# Altium schematic symbol library SCH.SchLib: 386 symbols (part 1 of 3)
Pins are listed as number, name and electrical type; pins without a type are passive.

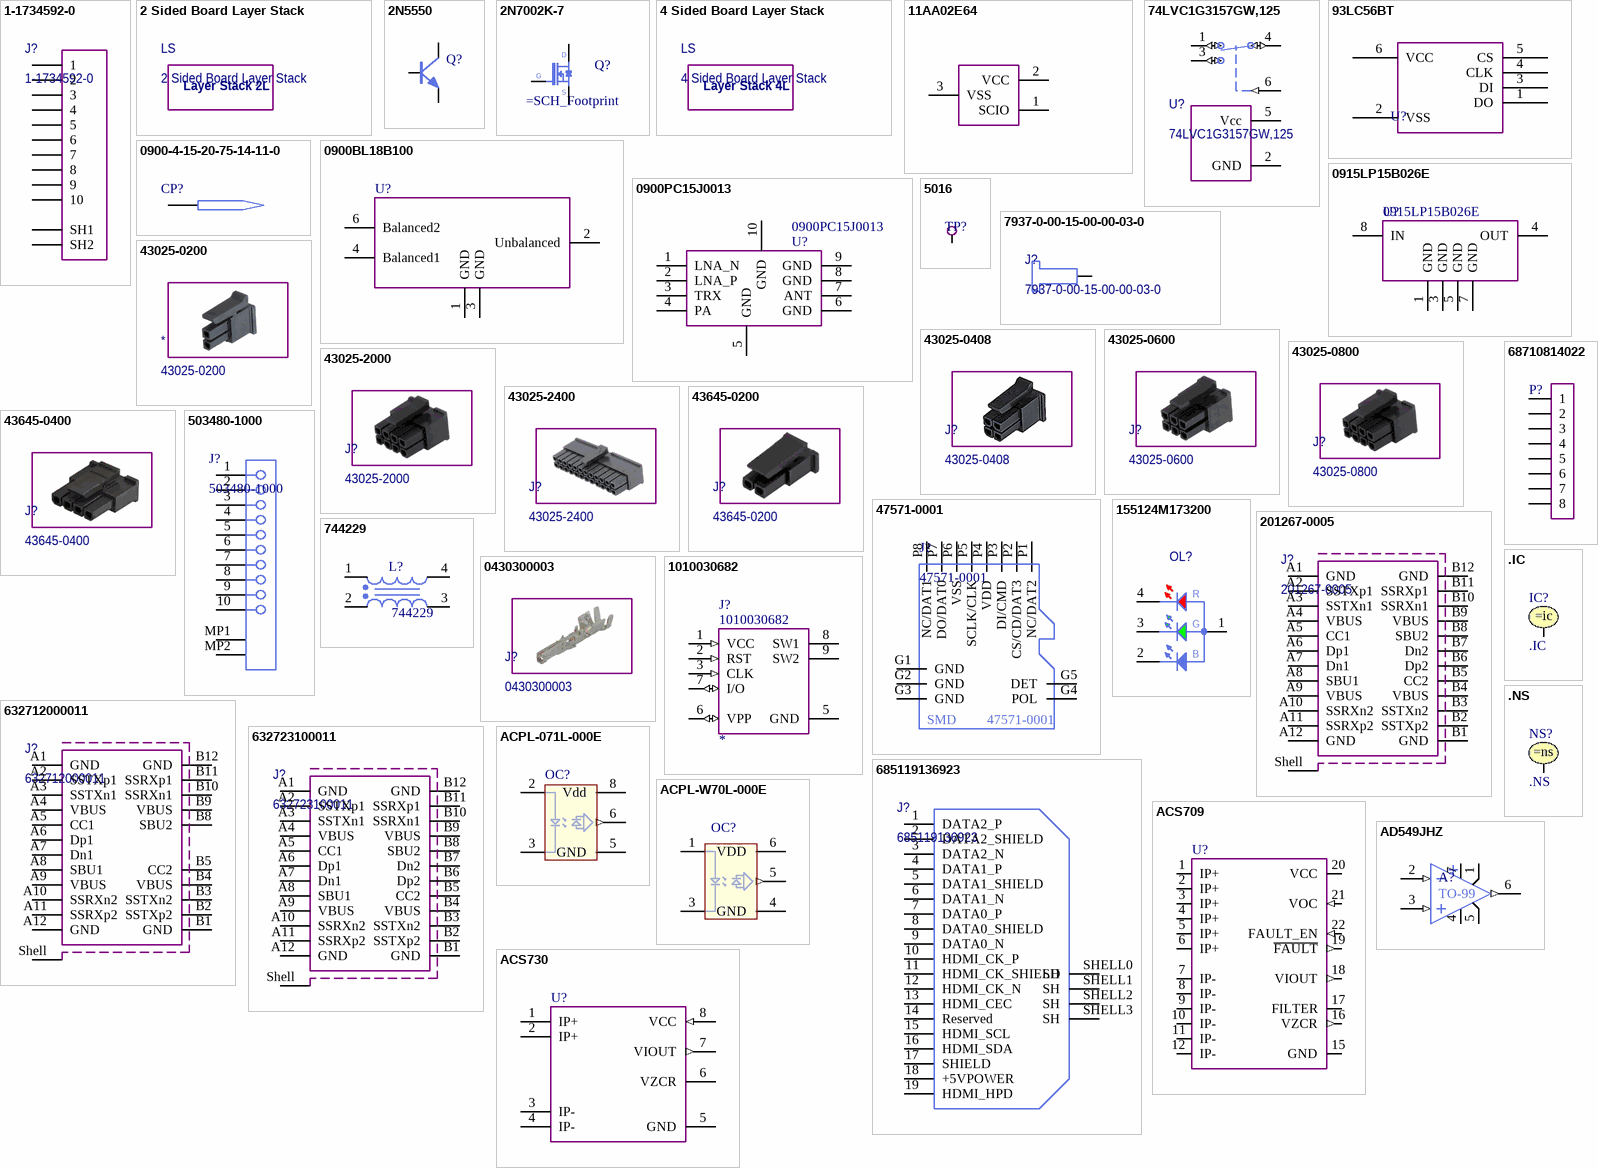
[diagram p0: symbols 1-1734592-0 to AD549JHZ]

## 1-1734592-0
designator J?
pins: 1, 2, 3, 4, 5, 6, 7, 8, 9, 10, SH1, SH2

## 2 Sided Board Layer Stack
designator LS
text: Layer Stack 2L

## 2N5550
designator Q?  (value not drawn)
pins: 1 E, 2 B, 3 C

## 2N7002K-7
designator Q?  (value not drawn)
pins: 1 G, 2 S, 3 D

## 4 Sided Board Layer Stack
designator LS
text: Layer Stack 4L

## 11AA02E64
designator U?
pins: 1 SCIO, 2 VCC, 3 VSS

## 74LVC1G3157GW,125
designator U?
pins: 1 Y1 (io), 2 GND (power), 3 Y0 (io), 4 Z (io), 5 Vcc (power), 6 S (in)

## 93LC56BT
designator U?  (value not drawn)
pins: 1 DO, 2 VSS, 3 DI, 4 CLK, 5 CS, 6 VCC

## 0900-4-15-20-75-14-11-0
designator CP?  (value not drawn)
pins: 1

## 0900BL18B100
designator U?  (value not drawn)
Datasheet: http://download.maritex.com.pl/pdfs/sc/0900BL18B100.pdf; Distributor 1: *; Distributor 1 ID: *; Distributor 1 Price: *; Distributor 1 URL: *; Distributor 2: *; Distributor 2 ID: *; Distributor 2 Price: *; Distributor 2 URL: *; Part Number: *; Value: *; Value Parameter: *
pins: 1 GND, 2 Unbalanced, 3 GND, 4 Balanced1, 6 Balanced2

## 0900PC15J0013
designator U?
pins: 1 LNA_N, 2 LNA_P, 3 TRX, 4 PA, 5 GND, 6 GND, 7 ANT, 8 GND, 9 GND, 10 GND

## 0915LP15B026E
designator U?
pins: 1 GND, 3 GND, 4 OUT, 5 GND, 7 GND, 8 IN

## 5016
designator TP?  (value not drawn)
pins: 1 TP

## 7937-0-00-15-00-00-03-0
designator J?
pins: 1

## 43025-0200
designator *

## 43025-0408
designator J?

## 43025-0600
designator J?

## 43025-0800
designator J?

## 43025-2000
designator J?

## 43025-2400
designator J?

## 43645-0200
designator J?

## 43645-0400
designator J?

## 47571-0001
designator J?  SCH_Footprint: SMD
J_MICRO_SD; Manufacturer Part Number: 47571-0001
pins: G1 GND, G2 GND, G3 GND, G4 POL, G5 DET, P1 NC/DAT2, P2 CS/CD/DAT3, P3 DI/CMD, P4 VDD, P5 SCLK/CLK, P6 VSS, P7 DO/DAT0, P8 NC/DAT1

## 155124M173200
designator OL?  (value not drawn)
Right Angle Tricolor (RGB) Surface Mount LED; Author: d3211
pins: 1 CC, 2 AB, 3 AG, 4 AR
text: R; G; B

## 201267-0005
designator J?
pins: A1 GND, A2 SSTXp1, A3 SSTXn1, A4 VBUS, A5 CC1, A6 Dp1, A7 Dn1, A8 SBU1, A9 VBUS, A10 SSRXn2, A11 SSRXp2, A12 GND, B1 GND, B2 SSTXp2, B3 SSTXn2, B4 VBUS, B5 CC2, B6 Dp2, B7 Dn2, B8 SBU2, B9 VBUS, B10 SSRXn1, B11 SSRXp1, B12 GND, Shell Shield

## 503480-1000
designator J?
pins: 1, 2, 3, 4, 5, 6, 7, 8, 9, 10, MP1, MP2

## 744229
designator L?
WE-SL2 SMD Common Mode Line Filter, 6500 uH
pins: 1, 2, 3, 4

## 0430300003
designator J?

## 1010030682
designator J?
SIM card connector; SCH_Footprint: *
pins: 1 VCC (in), 2 RST (in), 3 CLK (in), 5 GND (power), 6 VPP (io), 7 I/O (io), 8 SW1, 9 SW2
2 alternate drawings of the same symbol

## 68710814022
designator P?  (value not drawn)
WR-FPC 0.50mm SMT ZIF Horizontal Top Contact
pins: 1, 2, 3, 4, 5, 6, 7, 8

## 632712000011
designator J?
pins: A1 GND, A2 SSTXp1, A3 SSTXn1, A4 VBUS, A5 CC1, A6 Dp1, A7 Dn1, A8 SBU1, A9 VBUS, A10 SSRXn2, A11 SSRXp2, A12 GND, B1 GND, B2 SSTXp2, B3 SSTXn2, B4 VBUS, B5 CC2, B8 SBU2, B9 VBUS, B10 SSRXn1, B11 SSRXp1, B12 GND, Shell Shield

## 632723100011
designator J?
pins: A1 GND, A2 SSTXp1, A3 SSTXn1, A4 VBUS, A5 CC1, A6 Dp1, A7 Dn1, A8 SBU1, A9 VBUS, A10 SSRXn2, A11 SSRXp2, A12 GND, B1 GND, B2 SSTXp2, B3 SSTXn2, B4 VBUS, B5 CC2, B6 Dp2, B7 Dn2, B8 SBU2, B9 VBUS, B10 SSRXn1, B11 SSRXp1, B12 GND, Shell Shield

## 685119136923
designator J?
pins: 1 DATA2_P, 2 DATA2_SHIELD, 3 DATA2_N, 4 DATA1_P, 5 DATA1_SHIELD, 6 DATA1_N, 7 DATA0_P, 8 DATA0_SHIELD, 9 DATA0_N, 10 HDMI_CK_P, 11 HDMI_CK_SHIELD, 12 HDMI_CK_N, 13 HDMI_CEC, 14 Reserved, 15 HDMI_SCL, 16 HDMI_SDA, 17 SHIELD, 18 +5VPOWER (power), 19 HDMI_HPD "hot plug detect", SHELL0 SH, SHELL1 SH, SHELL2 SH, SHELL3 SH

## .IC
designator IC?
Initial Condition; Published: 8-Jun-2000; LatestRevisionDate: 17-Jul-2002; LatestRevisionNote: Re-released for DXP Platform.; PackageReference: Not Applicable; Publisher: Altium Limited
simulation model ControlStatement
pins: 1

## .NS
designator NS?
Node Set; Published: 8-Jun-2000; LatestRevisionDate: 17-Jul-2002; LatestRevisionNote: Re-released for DXP Platform.; PackageReference: Not Applicable; Publisher: Altium Limited
simulation model ControlStatement
pins: 1

## ACPL-071L-000E
designator OC?  (value not drawn)
pins: 2 A, 3 K, 5 GND (power), 6 Vo (out), 8 Vdd (power)

## ACPL-W70L-000E
designator OC?  (value not drawn)
pins: 1 A, 3 K, 4 GND (power), 5 Vo (out), 6 VDD (power)

## ACS709
designator U?  (value not drawn)
pins: 1 IP+, 2 IP+, 3 IP+, 4 IP+, 5 IP+, 6 IP+, 7 IP-, 8 IP-, 9 IP-, 10 IP-, 11 IP-, 12 IP-, 15 GND (power), 16 VZCR (out), 17 FILTER, 18 VIOUT (out), 19 ~{FAULT} (out), 20 VCC (power), 21 VOC (in), 22 FAULT_EN (in)

## ACS730
designator U?  (value not drawn)
pins: 1 IP+, 2 IP+, 3 IP-, 4 IP-, 5 GND, 6 VZCR, 7 VIOUT (out), 8 VCC (in)

## AD549JHZ
designator A?  SCH_Footprint: TO-99  (hidden comment: AD549JHZ)
pins: 1 OFFSET (power), 2 IN-1 (in), 3 IN+1 (in), 4 V- (power), 5 OFFSET (power), 6 OUTPUT (out), 7 V+ (power)

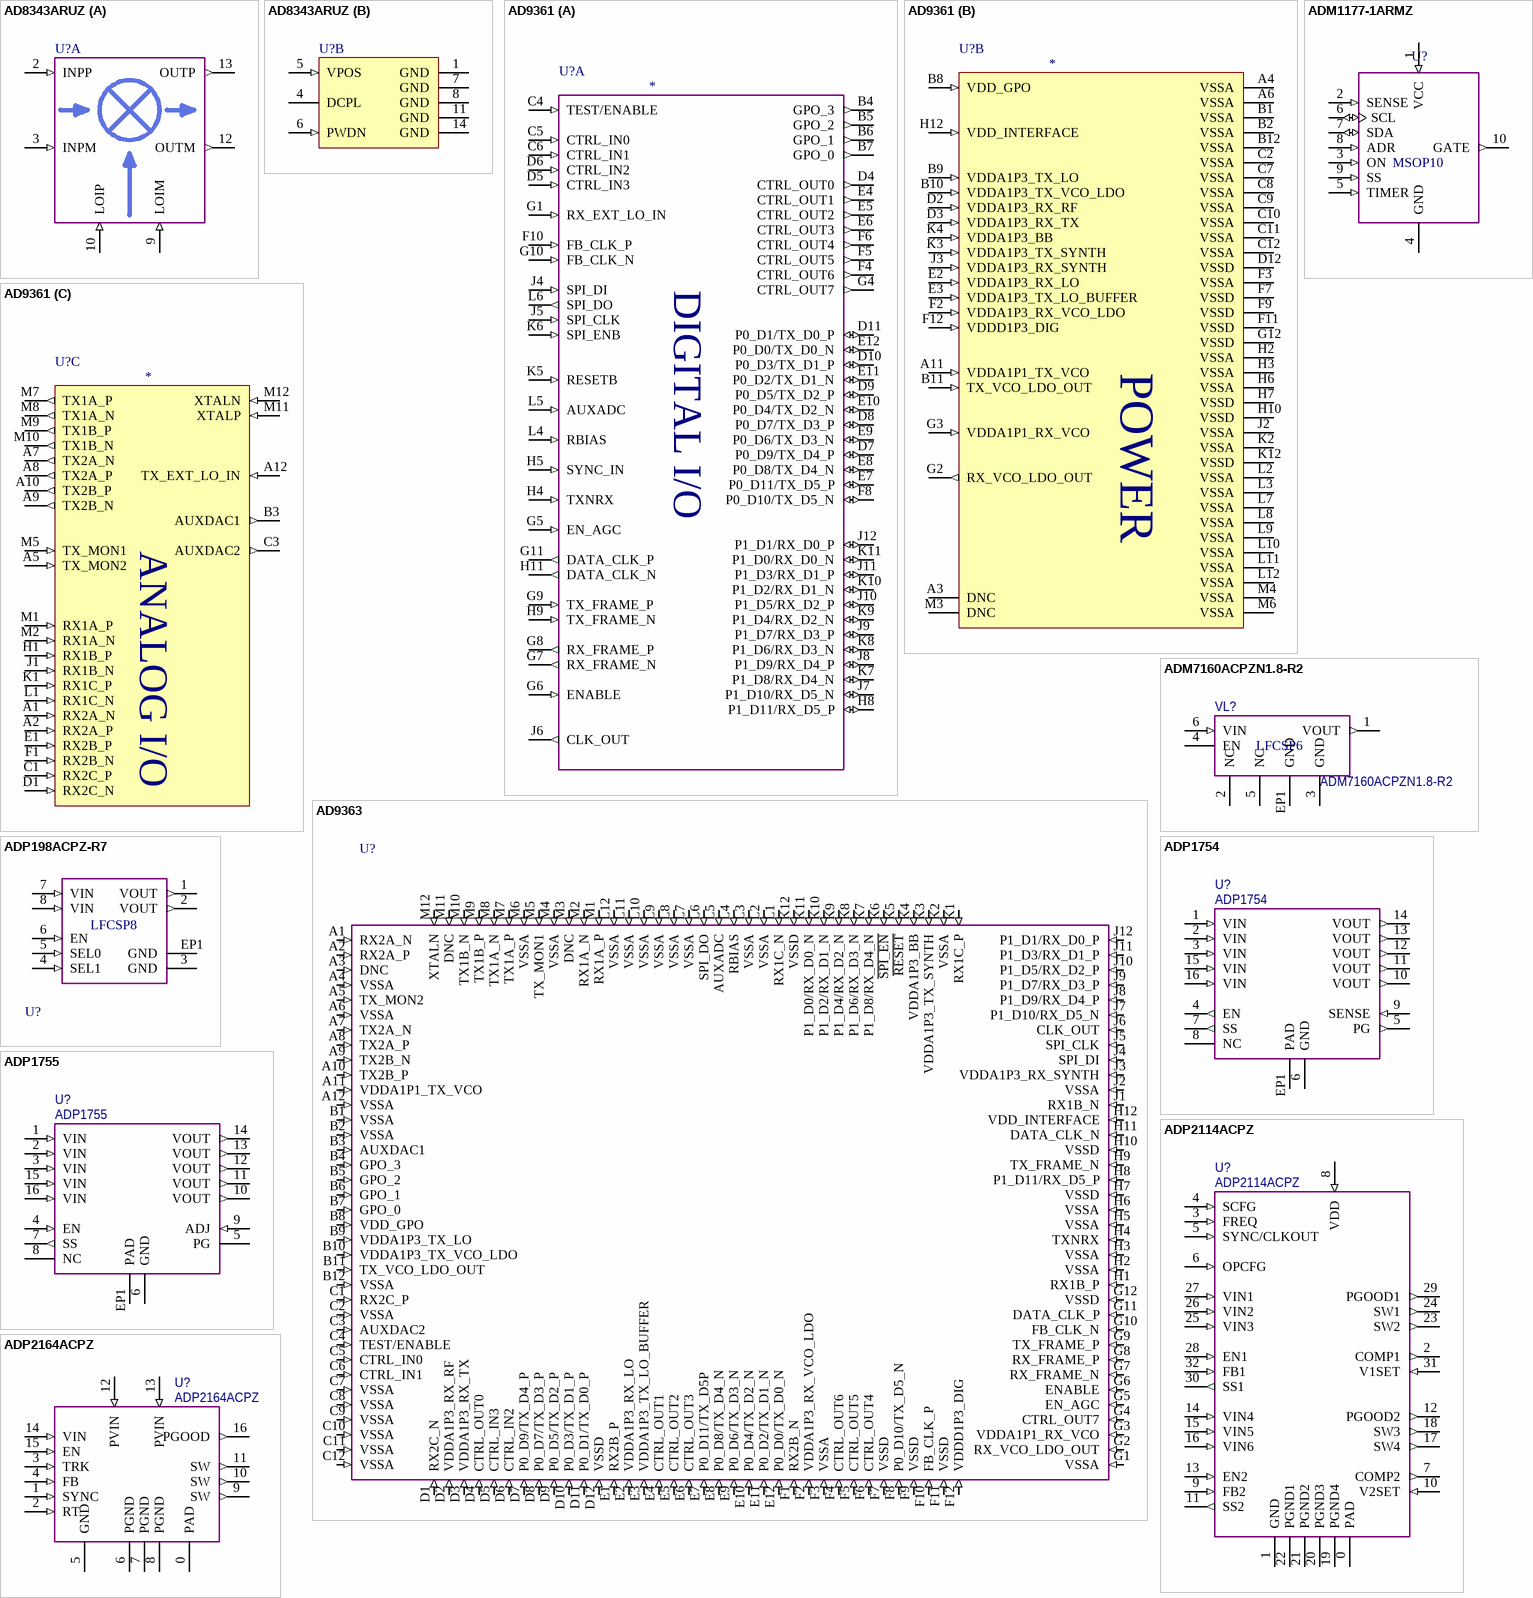
[diagram p1: symbols AD8343ARUZ to ADP2164ACPZ]

## AD8343ARUZ
designator U?  (value not drawn)
High IP-3 Active Mixer
part A pins: 2 INPP (in), 3 INPM (in), 9 LOIM (in), 10 LOIP (in), 12 OUTM (out), 13 OUTP (out)
part B pins: 1 GND (power), 4 DCPL, 5 VPOS (in), 6 PWDN (in), 7 GND (power), 8 GND (power), 11 GND (power), 14 GND (power)

## AD9361
designator U?  (value not drawn)
SCH_Footprint: *
part A pins: B4 GPO_3 (out), B5 GPO_2 (out), B6 GPO_1 (out), B7 GPO_0 (out), C4 TEST/ENABLE (in), C5 CTRL_IN0 (in), C6 CTRL_IN1 (in), D4 CTRL_OUT0 (out), D5 CTRL_IN3 (in), D6 CTRL_IN2 (in), D7 P0_D9/TX_D4_P (io), D8 P0_D7/TX_D3_P (io), D9 P0_D5/TX_D2_P (io), D10 P0_D3/TX_D1_P (io), D11 P0_D1/TX_D0_P (io), E4 CTRL_OUT1 (out), E5 CTRL_OUT2 (out), E6 CTRL_OUT3 (out), E7 P0_D11/TX_D5_P (io), E8 P0_D8/TX_D4_N (io), E9 P0_D6/TX_D3_N (io), E10 P0_D4/TX_D2_N (io), E11 P0_D2/TX_D1_N (io), E12 P0_D0/TX_D0_N (io), F4 CTRL_OUT6 (out), F5 CTRL_OUT5 (out), F6 CTRL_OUT4 (out), F8 P0_D10/TX_D5_N (io), F10 FB_CLK_P (in), G1 RX_EXT_LO_IN (in), G4 CTRL_OUT7 (out), G5 EN_AGC (in), G6 ENABLE (in), G7 RX_FRAME_N (out), G8 RX_FRAME_P (out), G9 TX_FRAME_P (in), G10 FB_CLK_N (in), G11 DATA_CLK_P (out), H4 TXNRX (in), H5 SYNC_IN (in), H8 P1_D11/RX_D5_P (io), H9 TX_FRAME_N (in), H11 DATA_CLK_N (out), J4 SPI_DI (in), J5 SPI_CLK (in), J6 CLK_OUT (out), J7 P1_D10/RX_D5_N (io), J8 P1_D9/RX_D4_P (io), J9 P1_D7/RX_D3_P (io), J10 P1_D5/RX_D2_P (io), J11 P1_D3/RX_D1_P (io), J12 P1_D1/RX_D0_P (io), K5 RESETB (in), K6 SPI_ENB (in), K7 P1_D8/RX_D4_N (io), K8 P1_D6/RX_D3_N (io), K9 P1_D4/RX_D2_N (io), K10 P1_D2/RX_D1_N (io), K11 P1_D0/RX_D0_N (io), L4 RBIAS (in), L5 AUXADC (in), L6 SPI_DO (out)
part B pins: A3 DNC, A4 VSSA (power), A6 VSSA (power), A11 VDDA1P1_TX_VCO (in), B1 VSSA (power), B2 VSSA (power), B8 VDD_GPO (in), B9 VDDA1P3_TX_LO (in), B10 VDDA1P3_TX_VCO_LDO (in), B11 TX_VCO_LDO_OUT (in), B12 VSSA (power), C2 VSSA (power), C7 VSSA (power), C8 VSSA (power), C9 VSSA (power), C10 VSSA (power), C11 VSSA (power), C12 VSSA (power), D2 VDDA1P3_RX_RF (in), D3 VDDA1P3_RX_TX (in), D12 VSSD (power), E2 VDDA1P3_RX_LO (in), E3 VDDA1P3_TX_LO_BUFFER (in), F2 VDDA1P3_RX_VCO_LDO (in), F3 VSSA (power), F7 VSSD (power), F9 VSSD (power), F11 VSSD (power), F12 VDDD1P3_DIG (in), G2 RX_VCO_LDO_OUT (out), G3 VDDA1P1_RX_VCO (in), G12 VSSD (power), H2 VSSA (power), H3 VSSA (power), H6 VSSA (power), H7 VSSD (power), H10 VSSD (power), H12 VDD_INTERFACE (in), J2 VSSA (power), J3 VDDA1P3_RX_SYNTH (in), K2 VSSA (power), K3 VDDA1P3_TX_SYNTH (in), K4 VDDA1P3_BB (in), K12 VSSD (power), L2 VSSA (power), L3 VSSA (power), L7 VSSA (power), L8 VSSA (power), L9 VSSA (power), L10 VSSA (power), L11 VSSA (power), L12 VSSA (power), M3 DNC, M4 VSSA (power), M6 VSSA (power)
part C pins: A1 RX2A_N (in), A2 RX2A_P (in), A5 TX_MON2 (in), A7 TX2A_N (out), A8 TX2A_P (out), A9 TX2B_N (out), A10 TX2B_P (out), A12 TX_EXT_LO_IN (in), B3 AUXDAC1 (out), C1 RX2C_P (in), C3 AUXDAC2 (out), D1 RX2C_N (in), E1 RX2B_P (in), F1 RX2B_N (in), H1 RX1B_P (in), J1 RX1B_N (in), K1 RX1C_P (in), L1 RX1C_N (in), M1 RX1A_P (in), M2 RX1A_N (in), M5 TX_MON1 (in), M7 TX1A_P (out), M8 TX1A_N (out), M9 TX1B_P (out), M10 TX1B_N (out), M11 XTALP (in), M12 XTALN (in)
2 alternate drawings of the same symbol
part A text: DIGITAL I/O
part B text: POWER
part C text: ANALOG I/O

## AD9363
designator U?  (value not drawn)
pins: A1 RX2A_N (in), A2 RX2A_P (in), A3 DNC (in), A4 VSSA (in), A5 TX_MON2 (in), A6 VSSA (in), A7 TX2A_N (in), A8 TX2A_P (in), A9 TX2B_N (in), A10 TX2B_P (in), A11 VDDA1P1_TX_VCO (in), A12 VSSA (in), B1 VSSA (in), B2 VSSA (in), B3 AUXDAC1 (in), B4 GPO_3 (in), B5 GPO_2 (in), B6 GPO_1 (in), B7 GPO_0 (in), B8 VDD_GPO (in), B9 VDDA1P3_TX_LO (in), B10 VDDA1P3_TX_VCO_LDO (in), B11 TX_VCO_LDO_OUT (in), B12 VSSA (in), C1 RX2C_P (in), C2 VSSA (in), C3 AUXDAC2 (in), C4 TEST/ENABLE (in), C5 CTRL_IN0 (in), C6 CTRL_IN1 (in), C7 VSSA (in), C8 VSSA (in), C9 VSSA (in), C10 VSSA (in), C11 VSSA (in), C12 VSSA (in), D1 RX2C_N (in), D2 VDDA1P3_RX_RF (in), D3 VDDA1P3_RX_TX (in), D4 CTRL_OUT0 (in), D5 CTRL_IN3 (in), D6 CTRL_IN2 (in), D7 P0_D9/TX_D4_P (in), D8 P0_D7/TX_D3_P (in), D9 P0_D5/TX_D2_P (in), D10 P0_D3/TX_D1_P (in), D11 P0_D1/TX_D0_P (in), D12 VSSD (in), E1 RX2B_P (in), E2 VDDA1P3_RX_LO (in), E3 VDDA1P3_TX_LO_BUFFER (in), E4 CTRL_OUT1 (in), E5 CTRL_OUT2 (in), E6 CTRL_OUT3 (in), E7 P0_D11/TX_D5P (in), E8 P0_D8/TX_D4_N (in), E9 P0_D6/TX_D3_N (in), E10 P0_D4/TX_D2_N (in), E11 P0_D2/TX_D1_N (in), E12 P0_D0/TX_D0_N (in), F1 RX2B_N (in), F2 VDDA1P3_RX_VCO_LDO (in), F3 VSSA (in), F4 CTRL_OUT6 (in), F5 CTRL_OUT5 (in), F6 CTRL_OUT4 (in), F7 VSSD (in), F8 P0_D10/TX_D5_N (in), F9 VSSD (in), F10 FB_CLK_P (in), F11 VSSD (in), F12 VDDD1P3_DIG (in), G1 VSSA (in), G2 RX_VCO_LDO_OUT (in), G3 VDDA1P1_RX_VCO (in), G4 CTRL_OUT7 (in), G5 EN_AGC (in), G6 ENABLE (in), G7 RX_FRAME_N (in), G8 RX_FRAME_P (in), G9 TX_FRAME_P (in), G10 FB_CLK_N (in), G11 DATA_CLK_P (in), G12 VSSD (in), H1 RX1B_P (in), H2 VSSA (in), H3 VSSA (in), H4 TXNRX (in), H5 VSSA (in), H6 VSSA (in), H7 VSSD (in), H8 P1_D11/RX_D5_P (in), H9 TX_FRAME_N (in), H10 VSSD (in), H11 DATA_CLK_N (in), H12 VDD_INTERFACE (in), J1 RX1B_N (in), J2 VSSA (in), J3 VDDA1P3_RX_SYNTH (in), J4 SPI_DI (in), J5 SPI_CLK (in), J6 CLK_OUT (in), J7 P1_D10/RX_D5_N (in), J8 P1_D9/RX_D4_P (in), J9 P1_D7/RX_D3_P (in), J10 P1_D5/RX_D2_P (in), J11 P1_D3/RX_D1_P (in), J12 P1_D1/RX_D0_P (in), K1 RX1C_P (in), K2 VSSA (in), K3 VDDA1P3_TX_SYNTH (in), K4 VDDA1P3_BB (in), K5 ~{RESET} (in), K6 ~{SPI_EN} (in), K7 P1_D8/RX_D4_N (in), K8 P1_D6/RX_D3_N (in), K9 P1_D4/RX_D2_N (in), K10 P1_D2/RX_D1_N (in), K11 P1_D0/RX_D0_N (in), K12 VSSD (in), L1 RX1C_N (in), L2 VSSA (in), L3 VSSA (in), L4 RBIAS (in), L5 AUXADC (in), L6 SPI_DO (in), L7 VSSA (in), L8 VSSA (in), L9 VSSA (in), L10 VSSA (in), L11 VSSA (in), L12 VSSA (in), M1 RX1A_P (in), M2 RX1A_N (in), M3 DNC (in), M4 VSSA (in), M5 TX_MON1 (in), M6 VSSA (in), M7 TX1A_P (in), M8 TX1A_N (in), M9 TX1B_P (in), M10 TX1B_N (in), M11 DNC (in), M12 XTALN (in)
2 alternate drawings of the same symbol

## ADM1177-1ARMZ
designator U?  SCH_Footprint: MSOP10  (hidden comment: ADM1177-1ARMZ)
pins: 1 VCC (in), 2 SENSE (in), 3 ON (in), 4 GND (power), 5 TIMER (in), 6 SCL (io), 7 SDA (io), 8 ADR (in), 9 SS (in), 10 GATE (out)

## ADM7160ACPZN1.8-R2
designator VL?  SCH_Footprint: LFCSP6
pins: 1 VOUT (out), 2 NC, 3 GND, 4 EN, 5 NC, 6 VIN (in), EP1 GND

## ADP198ACPZ-R7
designator U?  SCH_Footprint: LFCSP8  (hidden comment: ADP198ACPZ-R7)
pins: 1 VOUT (out), 2 VOUT (out), 3 GND, 4 SEL1 (in), 5 SEL0 (in), 6 EN (in), 7 VIN (in), 8 VIN (in), EP1 GND

## ADP1754
designator U?
pins: 1 VIN (in), 2 VIN (in), 3 VIN (in), 4 EN (out), 5 PG (out), 6 GND (power), 7 SS (out), 8 NC (hiz), 9 SENSE (in), 10 VOUT (out), 11 VOUT (out), 12 VOUT (out), 13 VOUT (out), 14 VOUT (out), 15 VIN (in), 16 VIN (in), EP1 PAD (power)

## ADP1755
designator U?
pins: 1 VIN (in), 2 VIN (in), 3 VIN (in), 4 EN (in), 5 PG (oc), 6 GND (power), 7 SS (out), 8 NC (hiz), 9 ADJ (in), 10 VOUT (out), 11 VOUT (out), 12 VOUT (out), 13 VOUT (out), 14 VOUT (out), 15 VIN (in), 16 VIN (in), EP1 PAD (power)

## ADP2114ACPZ
designator U?
pins: 0 PAD (power), 1 GND (power), 2 COMP1 (out), 3 FREQ (in), 4 SCFG (in), 5 SYNC/CLKOUT (in), 6 OPCFG (in), 7 COMP2 (out), 8 VDD (in), 9 FB2 (in), 10 V2SET (in), 11 SS2 (out), 12 PGOOD2 (out), 13 EN2 (in), 14 VIN4 (in), 15 VIN5 (in), 16 VIN6 (in), 17 SW4 (out), 18 SW3 (out), 19 PGND4 (power), 20 PGND3 (power), 21 PGND2 (power), 22 PGND1 (power), 23 SW2 (out), 24 SW1 (out), 25 VIN3 (in), 26 VIN2 (in), 27 VIN1 (in), 28 EN1 (in), 29 PGOOD1 (out), 30 SS1 (out), 31 V1SET (in), 32 FB1 (in)

## ADP2164ACPZ
designator U?
pins: 0 PAD (power), 1 SYNC (in), 2 RT (in), 3 TRK (in), 4 FB (in), 5 GND (power), 6 PGND (power), 7 PGND (power), 8 PGND (power), 9 SW (out), 10 SW (out), 11 SW (out), 12 PVIN (in), 13 PVIN (in), 14 VIN (in), 15 EN (in), 16 PGOOD (out)

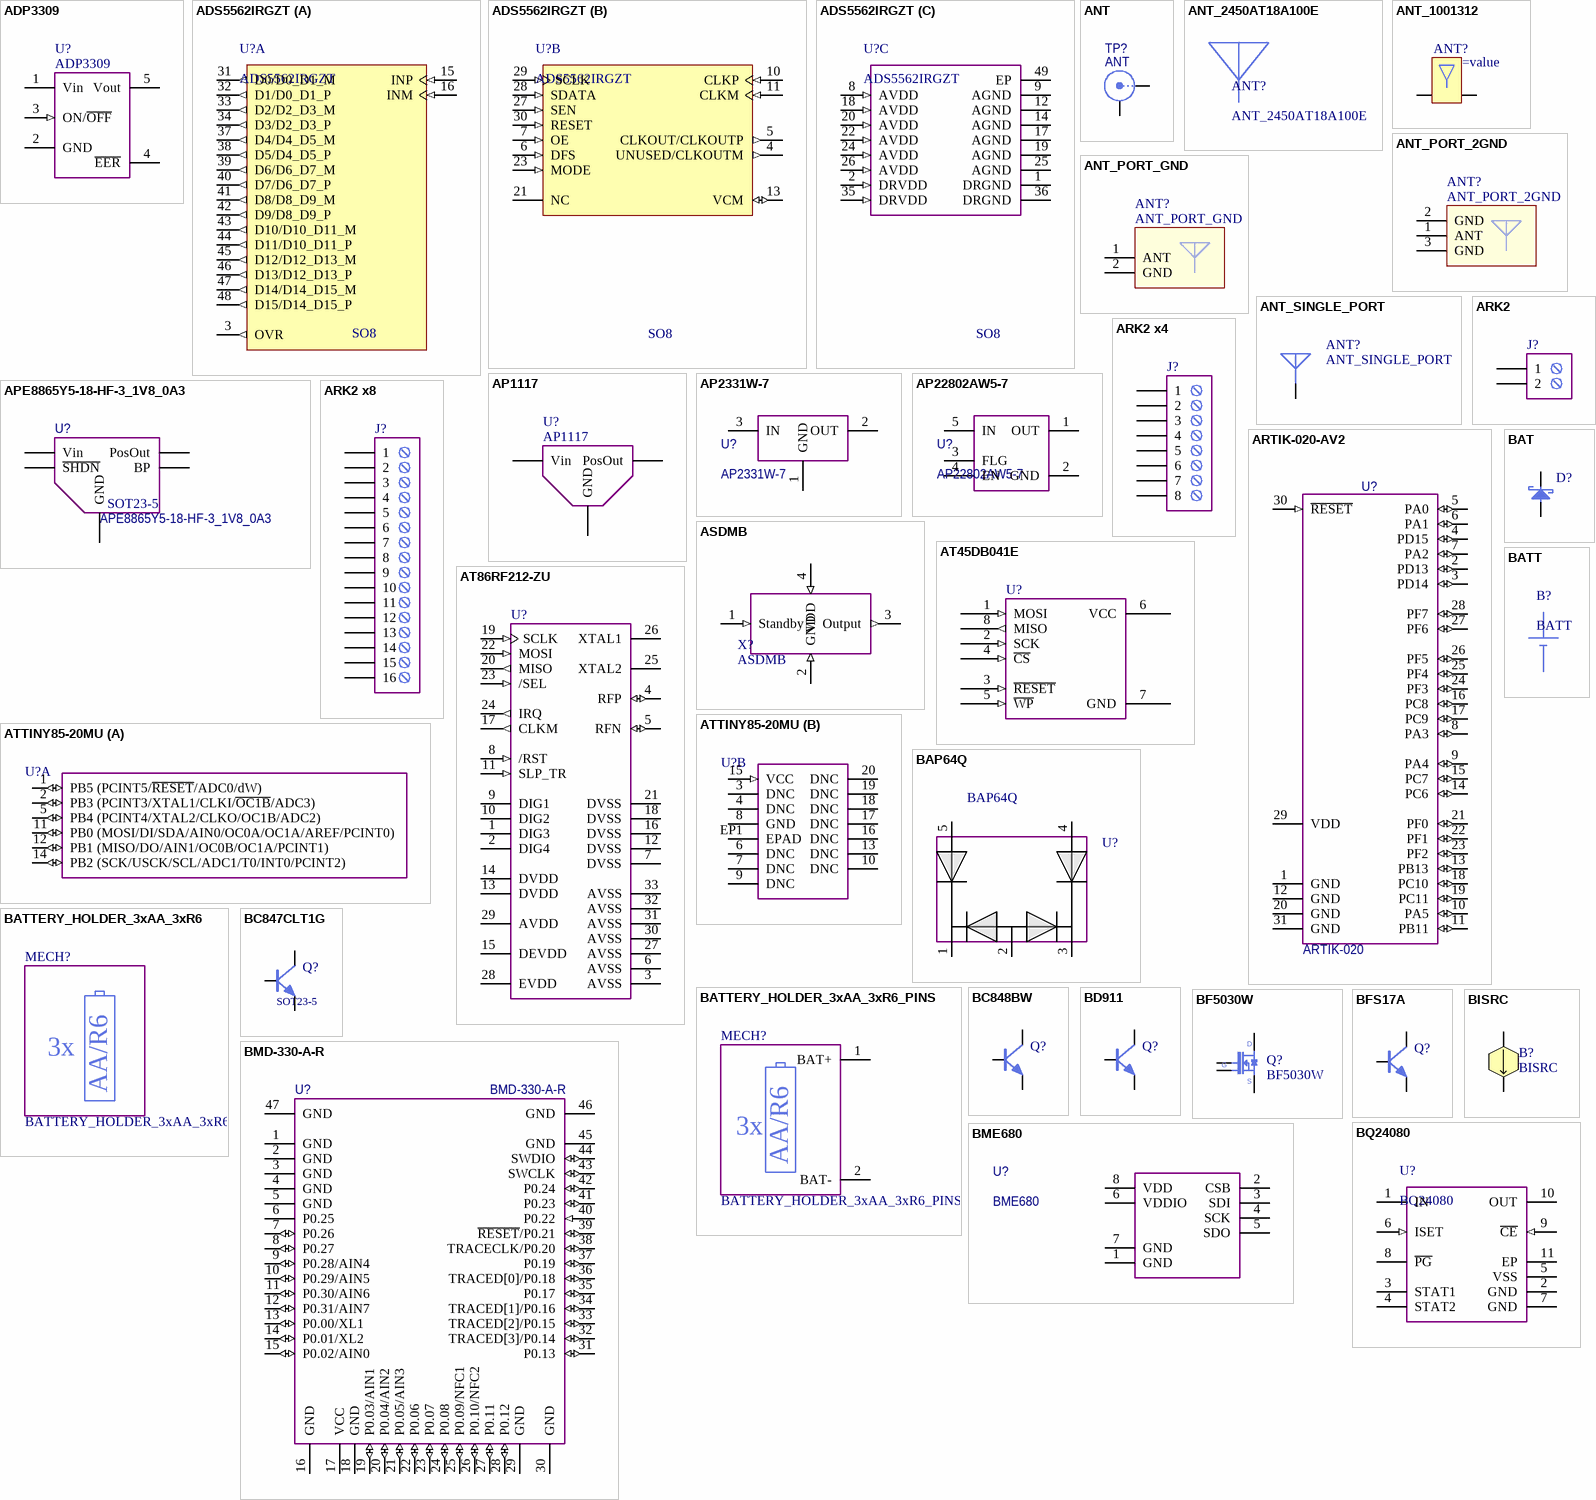
[diagram p2: symbols ADP3309 to BQ24080]

## ADP3309
designator U?
pins: 1 Vin, 2 GND, 3 ON/~{OFF} (in), 4 ~{EER}, 5 Vout

## ADS5562IRGZT
designator U?  SCH_Footprint: SO8
part A pins: 3 OVR (out) "Out-of-range indicator, CMOS level signal", 15 INP (in) "Differential analog input", 16 INM (in) "Differential analog input", 31 D0/D0_D1_M (out), 32 D1/D0_D1_P (out), 33 D2/D2_D3_M (out), 34 D3/D2_D3_P (out), 37 D4/D4_D5_M (out), 38 D5/D4_D5_P (out), 39 D6/D6_D7_M (out), 40 D7/D6_D7_P (out), 41 D8/D8_D9_M (out), 42 D9/D8_D9_P (out), 43 D10/D10_D11_M (out), 44 D11/D10_D11_P (out), 45 D12/D12_D13_M (out), 46 D13/D12_D13_P (out), 47 D14/D14_D15_M (out), 48 D15/D14_D15_P (out)
part B pins: 4 UNUSED/CLKOUTM (out), 5 CLKOUT/CLKOUTP (out), 6 DFS (in) "Data Format Select input. This pin sets the DATA FORMAT (Twos complement or Offset binary) and the LVDS/CMOS output mode type. See Table 8 for detailed information. The pin has an internal 100-kohm pull-down resistor to (See Datasheet)", 7 OE (in) "Output buffer enable input, active high. The pin has an internal 100-kohm pull-up resistor to DRVDD.", 10 CLKP (in) "Differential clock input", 11 CLKM (in) "Differential clock input", 13 VCM (io) "Internal reference mode - Common-mode voltage output. External reference mode - Reference input. The voltage forced on this pin sets the internal references.", 21 NC "Do not connect", 23 MODE (in) "Mode select input. This pin selects the Internal or External reference mode. See Table 9 for detailed information. The pin has an internal 100-kohm pull-down resistor to AGND.", 27 SEN (in) "This pin functions as serial interface enable input when RESET is low. It functions as CLKOUT edge programmability when RESET is tied high. See Table 7 for detailed information. The pin has an internal 100-kohm pull-up (See Datasheet)", 28 SDATA (in) "This pin functions as serial interface data input when RESET is low. It functions as STANDBY control pin when RESET is tied high.See Table 6 for detailed information.The pin has an internal 100-kohm pull-down resistor to (See Datasheet)", 29 SCLK (in) "This pin functions as serial interface clock input when RESET is low. It functions as LOW SPEED MODE control when RESET is tied high.", 30 RESET (in) "Serial interface reset input. When using the serial interface, the user should apply a high-going pulse onthis pin to reset the internal registers. When the serial interface is not used, the user should tie RESET permanently (See Datasheet)"
part C pins: 1 DRGND (power) "Digital and output buffer ground", 2 DRVDD (in) "Digital and output buffer supply", 8 AVDD (in) "Analog power supply", 9 AGND (power) "Analog ground", 12 AGND (power) "Analog ground", 14 AGND (power) "Analog ground", 17 AGND (power) "Analog ground", 18 AVDD (in) "Analog power supply", 19 AGND (power) "Analog ground", 20 AVDD (in) "Analog power supply", 22 AVDD (in) "Analog power supply", 24 AVDD (in) "Analog power supply", 25 AGND (power) "Analog ground", 26 AVDD (in) "Analog power supply", 35 DRVDD (in) "Digital and output buffer supply", 36 DRGND (power) "Digital and output buffer ground", 49 EP (power) "Connect the PAD to the ground plane. See in application section."

## ANT
designator TP?
Soldered antenna PAD
pins: 1 X, 2 Y

## ANT_2450AT18A100E
designator ANT?
BLE antenna
pins: 1

## ANT_1001312
designator ANT?  (value not drawn)
2.4 GHz Ceramic Antenna; Value: =value
pins: 1 inp, 2 inp

## ANT_PORT_2GND
designator ANT?
pins: 1 ANT, 2 GND, 3 GND

## ANT_PORT_GND
designator ANT?
pins: 1 ANT, 2 GND

## ANT_SINGLE_PORT
designator ANT?
pins: 1

## AP1117
designator U?
pins: 1 GND, 2 PosOut, 3 Vin

## AP2331W-7
designator U?
pins: 1 GND, 2 OUT, 3 IN

## AP22802AW5-7
designator U?
pins: 1 OUT, 2 GND, 3 FLG, 4 EN, 5 IN

## APE8865Y5-18-HF-3_1V8_0A3
designator U?
VOLT_REG_APE8865Y5-18-HF-3
pins: 1 Vin, 2 GND, 3 ~{SHDN}, 4 BP, 5 PosOut
text: SOT23-5

## ARK2
designator J?  (value not drawn)
pins: 1, 2

## ARK2 x4
designator J?  (value not drawn)
pins: 1, 2, 3, 4, 5, 6, 7, 8

## ARK2 x8
designator J?  (value not drawn)
pins: 1, 2, 3, 4, 5, 6, 7, 8, 9, 10, 11, 12, 13, 14, 15, 16

## ARTIK-020-AV2
designator U?  Device: ARTIK-020  (hidden comment: ARTIK-020-AV2)
ARTIK 020 Bluetooth Module; Part Number: PCBM_ARTIK-020; Manufacturer: SAMSUNG; Table: PCB Modules; Component Kind: Standard; Component Type: Standard; Footprint: PCBM_ARTIK-020; PackageDescription: ARTIK 020 Bluetooth Module; Part Description: ARTIK 020 Bluetooth Module; Manufacturer Part Number: ARTIK-020-AV2; Pin Count: 31; Mounted: Yes; Socket: No; SMD: Yes; ComponentHeight: 2mm; Author: d3211; CreateDate: 02-08-2017; LatestRevisionDate: 02-08-2017
pins: 1 GND (power), 2 PD13 (io), 3 PD14 (io), 4 PD15 (io), 5 PA0 (io), 6 PA1 (io), 7 PA2 (io), 8 PA3 (io), 9 PA4 (io), 10 PA5 (io), 11 PB11 (io), 12 GND (power), 13 PB13 (io), 14 PC6 (io), 15 PC7 (io), 16 PC8 (io), 17 PC9 (io), 18 PC10 (io), 19 PC11 (io), 20 GND (power), 21 PF0 (io), 22 PF1 (io), 23 PF2 (io), 24 PF3 (io), 25 PF4 (io), 26 PF5 (io), 27 PF6 (io), 28 PF7 (io), 29 VDD (power), 30 ~{RESET} (in), 31 GND (power)

## ASDMB
designator X?
pins: 1 Standby (in), 2 GND (in), 3 Output (out), 4 VDD (in)

## AT45DB041E
designator U?  (value not drawn)
pins: 1 MOSI (in), 2 SCK (in), 3 ~{RESET} (in), 4 ~{CS} (in), 5 ~{WP} (in), 6 VCC, 7 GND, 8 MISO (out)

## AT86RF212-ZU
designator U?  (value not drawn)
pins: 1 DIG3 "RX/TX Indication , see section9.4; if disabled, internally pulled to AVSS", 2 DIG4 "RX/TX Indication (inverted DIG3) , see section9.4; if disabled, internally pulled to AVSS", 3 AVSS (power) "Ground for RF signals", 4 RFP (io) "Differential RF signal", 5 RFN (io) "Differential RF signal", 6 AVSS (power) "Ground for RF signals", 7 DVSS (power) "Digital ground", 8 /RST (in) "Chip reset; active low", 9 DIG1 "General purpose signal, see section 9.3; if disabled, internally pulled to DVSS", 10 DIG2 "1.General purpose signal (inverted DIG1), see section 9.3; 2.Signal IRQ_2 (RX_START) for RX Frame Time Stamping, see 9.5. If disabled, internally pulled to DVSS", 11 SLP_TR (in) "Controls sleep, transmit start, receive states; active high, see Section 6.5", 12 DVSS (power) "Digital ground", 13 DVDD (power) "Regulated 1.8V supply voltage; digital domain;see section 7.5", 14 DVDD (power) "Regulated 1.8V supply voltage; digital domain;see section 7.5", 15 DEVDD (power) "External supply voltage; digital domain", 16 DVSS (power) "Digital ground", 17 CLKM (out) "Master clock signal output,low if disabled;see section 7.7", 18 DVSS (power) "Digital ground", 19 SCLK (in) "SPI clock", 20 MISO (out) "SPI data output (master input slave output)", 21 DVSS (power) "Digital ground", 22 MOSI (in) "SPI data input (master output slave input)", 23 /SEL (in) "SPI select; active low", 24 IRQ (out) "1.Interrupt request signal; active high or active low;see sectiong 4.7   2.Buffer-level mode indicator;active high", 25 XTAL2 "Crystal pin,see sections 2.2.1.3 and 7.7", 26 XTAL1 "Crystal pin or external clock supply, see  section 2.2.1.3 and 7.7", 27 AVSS (power) "Analog ground", 28 EVDD (power) "External supply voltage; analog domain", 29 AVDD (power) "Regulated 1.8V supply voltage; analog domain;see section 7.5", 30 AVSS (power) "Analog ground", 31 AVSS (power) "Analog ground", 32 AVSS (power) "Analog ground", 33 AVSS (power) "Analog ground;exposed paddle of QFN package"

## ATTINY85-20MU
designator U?  (value not drawn)
part A pins: 1 PB5 (PCINT5/~{RESET}/ADC0/dW) (io), 2 PB3 (PCINT3/XTAL1/CLKI/~{OC1B}/ADC3) (io), 5 PB4 (PCINT4/XTAL2/CLKO/OC1B/ADC2) (io), 11 PB0 (MOSI/DI/SDA/AIN0/OC0A/OC1A/AREF/PCINT0) (io), 12 PB1 (MISO/DO/AIN1/OC0B/OC1A/PCINT1) (io), 14 PB2 (SCK/USCK/SCL/ADC1/T0/INT0/PCINT2) (io)
part B pins: 3 DNC, 4 DNC, 6 DNC (hiz), 7 DNC, 8 GND (power), 9 DNC, 10 DNC, 13 DNC, 15 VCC (in), 16 DNC, 17 DNC, 18 DNC, 19 DNC, 20 DNC, EP1 EPAD

## BAP64Q
designator U?
4 PIN diode attenuator
pins: 1, 2, 3, 4, 5
2 alternate drawings of the same symbol

## BAT
designator D?  (value not drawn)
pins: 1 C, 2 A
1 alternate drawing of the same symbol

## BATT
designator B?
pins: NEG, POS

## BATTERY_HOLDER_3xAA_3xR6
designator MECH?
Battery holder 3xAA
text: 3x; AA/R6

## BATTERY_HOLDER_3xAA_3xR6_PINS
designator MECH?
Battery holder 3xAA
pins: 1 BAT+, 2 BAT-
text: 3x; AA/R6

## BC847CLT1G
designator Q?  SCH_Footprint: SOT23-5  (hidden comment: BC847CLT1G)
pins: 1 B, 2 E, 3 C

## BC848BW
designator Q?  (value not drawn)
pins: 1 B, 2 E, 3 C

## BD911
designator Q?  (value not drawn)
pins: 1 B, 2 C, 3 E

## BF5030W
designator Q?
pins: 1 D, 2 S, 3 G1, 4 G2
text: G

## BFS17A
designator Q?  (value not drawn)
pins: 1 B, 2 E, 3 C

## BISRC
designator B?
Non-Linear Dependent Current Source; Note: PCB Footprint - Not required; Sim Note: Enter the formula required into the EQUATION field; Published: 8-Jun-2000; LatestRevisionDate: 17-Jul-2002; LatestRevisionNote: Re-released for DXP Platform.; PackageReference: Not Applicable; Publisher: Altium Limited
simulation model NLDS
pins: 1, 2

## BMD-330-A-R
designator U?
pins: 1 GND (power), 2 GND (power), 3 GND (power), 4 GND (power), 5 GND (power), 6 P0.25 (power), 7 P0.26 (io), 8 P0.27 (io), 9 P0.28/AIN4 (io), 10 P0.29/AIN5 (io), 11 P0.30/AIN6 (io), 12 P0.31/AIN7 (io), 13 P0.00/XL1 (io), 14 P0.01/XL2 (io), 15 P0.02/AIN0 (io), 16 GND (power), 17 VCC (power), 18 GND (power), 19 P0.03/AIN1 (io), 20 P0.04/AIN2 (io), 21 P0.05/AIN3 (io), 22 P0.06 (io), 23 P0.07 (io), 24 P0.08 (io), 25 P0.09/NFC1 (io), 26 P0.10/NFC2 (io), 27 P0.11 (io), 28 P0.12 (io), 29 GND (power), 30 GND (power), 31 P0.13 (io), 32 TRACED[3]/P0.14 (io), 33 TRACED[2]/P0.15 (io), 34 TRACED[1]/P0.16 (io), 35 P0.17 (io), 36 TRACED[0]/P0.18 (io), 37 P0.19 (io), 38 TRACECLK/P0.20 (io), 39 ~{RESET}/P0.21 (io), 40 P0.22 (in), 41 P0.23 (io), 42 P0.24 (io), 43 SWCLK (io), 44 SWDIO (io), 45 GND (power), 46 GND (power), 47 GND (power)

## BME680
designator U?
pins: 1 GND, 2 CSB, 3 SDI, 4 SCK, 5 SDO, 6 VDDIO, 7 GND, 8 VDD

## BQ24080
designator U?
pins: 1 IN (power) "Adapter dc voltage. Connect minimum 0.1-uF capacitor to VSS.", 2 GND (power) "Ground", 3 STAT1 (oc) "Charge status outputs (open-drain)", 4 STAT2 (oc) "Charge status outputs (open-drain)", 5 VSS (power) "Ground", 6 ISET (in) "Charge current. External resistor to VSS sets precharge and fast-charge current, and also the termination current value. Can be used to monitor the charge current.", 7 GND (power) "Ground", 8 ~{PG} (hiz) "Power-good status output (open-drain)", 9 ~{CE} (in) "Charge enable input (active-low)", 10 OUT (power) "Charge current output. Connect minimum 0.1-uF capacitor to VSS.", 11 EP (power) "There is an internal electrical connection between the exposed thermal pad and the VSS pin of the device. The exposed thermal pad must be connected to the same potential as the VSS pin on the printed-circuit board. Do not (See Datasheet)"

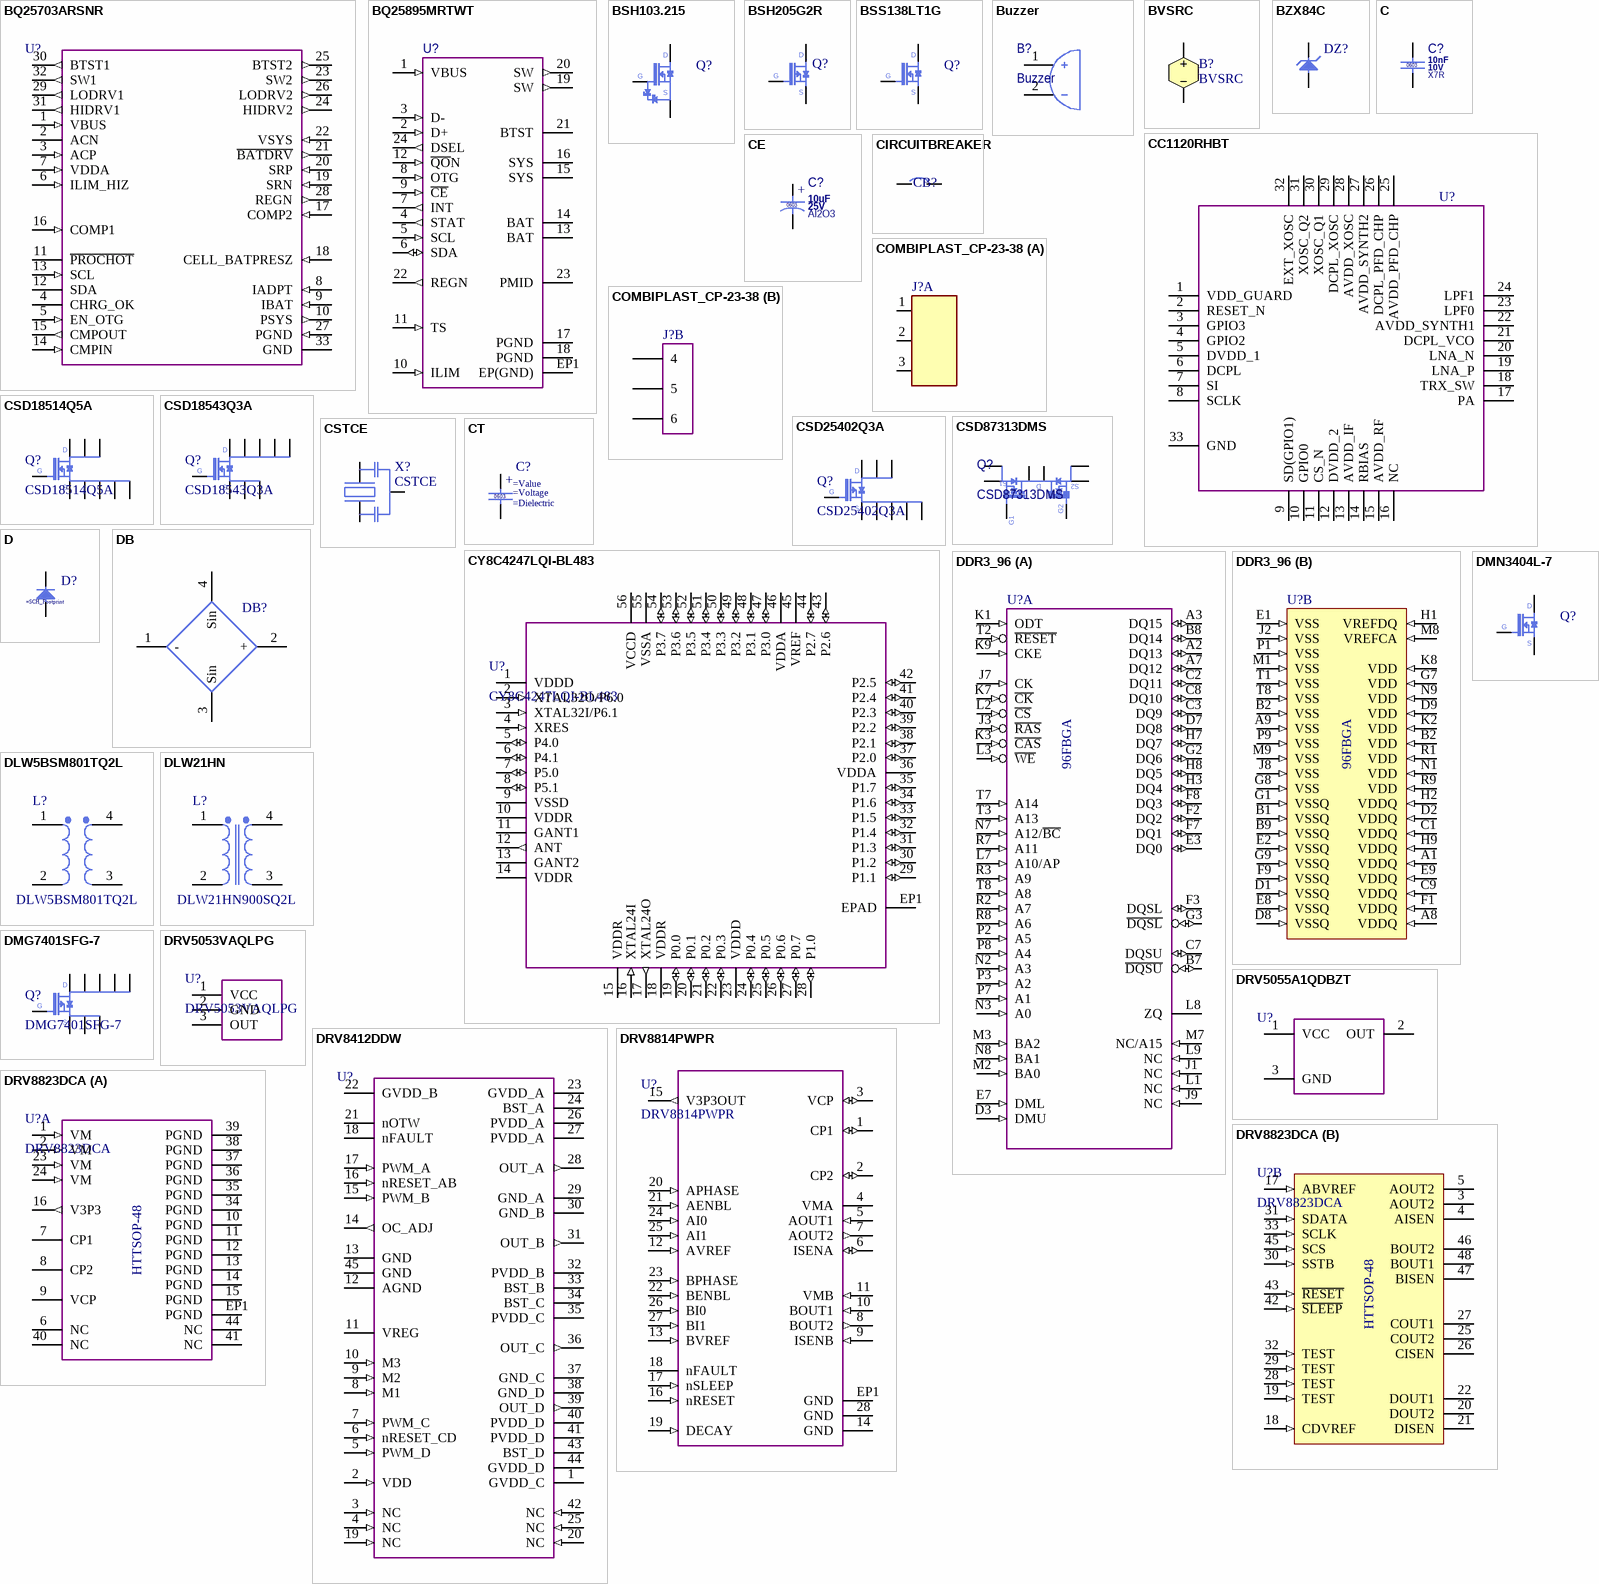
[diagram p3: symbols BQ25703ARSNR to DRV8823DCA]

## BQ25703ARSNR
designator U?  (value not drawn)
pins: 1 VBUS (in) "Charger input voltage", 2 ACN "Input current sense resistor negative input", 3 ACP (in) "Input current sense resistor positive input", 4 CHRG_OK (oc) "Open drain active high indicator to inform the system good power source is connected to the charger input", 5 EN_OTG (in) "Active HIGH to enable OTG mode", 6 ILIM_HIZ (in) "Input current limit input", 7 VDDA (in) "Internal reference bias pin", 8 IADPT (in) "Buffered adapter current output", 9 IBAT (in) "Buffered battery current selected by I2C", 10 PSYS (out) "Current mode system power monitor", 11 ~{PROCHOT} (oc) "Active low open drain output of processor hot indicator", 12 SDA (oc) "I2C open-drain data I/O", 13 SCL (in) "I2C clock input", 14 CMPIN (in) "Input of independent comparator", 15 CMPOUT (out) "Open-drain output of independent comparator", 16 COMP1 (in) "Buck boost converter compensation pin 1", 17 COMP2 (in) "Buck boost converter compensation pin 2", 18 CELL_BATPRESZ (in) "Battery cell selection pin for 1–4 cell battery setting", 19 SRN (in) "Charge current sense resistor negative input", 20 SRP (in) "Charge current sense resistor positive input", 21 ~{BATDRV} (out) "P-channel battery FET (BATFET) gate driver output", 22 VSYS (in) "Charger system voltage sensing", 23 SW2 (out) "Boost mode high side power MOSFET driver source", 24 HIDRV2 (out) "Boost mode high side power MOSFET(Q4) driver", 25 BTST2 (out) "Boost mode high side power MOSFET driver power supply", 26 LODRV2 (out) "Boost mode low side power MOSFET (Q3) driver", 27 PGND (in) "Device power ground", 28 REGN (out) "6-V linear regulator output supplied from VBUS or VSYS", 29 LODRV1 (out) "Buck mode low side power MOSFET (Q2) driver", 30 BTST1 (out) "Buck mode high side power MOSFET driver power supply", 31 HIDRV1 (out) "Buck mode high side power MOSFET (Q1) driver", 32 SW1 (out) "Buck mode high side power MOSFET driver source", 33 GND (power) "Analog ground and power ground star-connected near the IC's"

## BQ25895MRTWT
designator U?  (value not drawn)
I2C Controlled Single Cell Fast Charger with MaxCharge Technology for High Input Voltage and Adjustable Voltage 3.1 A Boost Operation; Author: Yuri
pins: 1 VBUS (in), 2 D+ (in), 3 D- (in), 4 STAT (out), 5 SCL (in), 6 SDA (io), 7 INT (out), 8 OTG (in), 9 ~{CE} (in), 10 ILIM (in), 11 TS (in), 12 ~{QO}N (in), 13 BAT (power), 14 BAT (power), 15 SYS (power), 16 SYS (power), 17 PGND (power), 18 PGND (power), 19 SW (out), 20 SW (out), 21 BTST (power), 22 REGN (out), 23 PMID (power), 24 DSEL (out), EP1 EP(GND) (power)

## BSH103.215
designator Q?  (value not drawn)  (graphical)
pins: 1 G, 2 S, 3 D

## BSH205G2R
designator Q?  (value not drawn)
pins: 1 G, 2 S, 3 D

## BSS138LT1G
designator Q?  (value not drawn)
pins: 1 G, 2 D, 3 S

## Buzzer
designator B?
pins: 1, 2

## BVSRC
designator B?
Non-Linear Dependent Voltage Source; Note: PCB Footprint - Not required; Sim Note: Enter formula required into the equation field; Published: 8-Jun-2000; LatestRevisionDate: 17-Jul-2002; LatestRevisionNote: Re-released for DXP Platform.; PackageReference: Not Applicable; Publisher: Altium Limited
simulation model NLDS
pins: 1, 2

## BZX84C
designator DZ?  (value not drawn)
Zenner diode
pins: 1 A, 3 C
1 alternate drawing of the same symbol

## C
designator C?ase/Package: 0603  Dielectric: X7R  Voltage: 10V  Capacitance: 10nF  (hidden comment: C)
Capacitor
pins: 1, 2
2 alternate drawings of the same symbol

## CC1120RHBT
designator U?  (value not drawn)
pins: 1 VDD_GUARD, 2 RESET_N, 3 GPIO3, 4 GPIO2, 5 DVDD_1, 6 DCPL, 7 SI, 8 SCLK, 9 SD(GPIO1), 10 GPIO0, 11 CS_N, 12 DVDD_2, 13 AVDD_IF, 14 RBIAS, 15 AVDD_RF, 16 NC, 17 PA, 18 TRX_SW, 19 LNA_P, 20 LNA_N, 21 DCPL_VCO, 22 AVDD_SYNTH1, 23 LPF0, 24 LPF1, 25 AVDD_PFD_CHP, 26 DCPL_PFD_CHP, 27 AVDD_SYNTH2, 28 AVDD_XOSC, 29 DCPL_XOSC, 30 XOSC_Q1, 31 XOSC_Q2, 32 EXT_XOSC, 33 GND

## CE
designator C?  Voltage: 25V  Capacitance: 10uF  Dielectric: Al2O3  Case/Package: 0603  (hidden comment: CE)
pins: 1, 2
2 alternate drawings of the same symbol
text: +

## CIRCUITBREAKER
designator CB?  (value not drawn)
Circuit Breaker
pins: 1, 2
1 alternate drawing of the same symbol

## COMBIPLAST_CP-23-38
designator J?  (value not drawn)
part A pins: 1, 2, 3
part B pins: 4, 5, 6

## CSD18514Q5A
designator Q?
pins: 1 S, 2 S, 3 S, 4 G, 5 D, 6 D, 7 D, 8 D, 9 D

## CSD18543Q3A
designator Q?
pins: 1 S, 2 S, 3 S, 4 G, 5 D, 6 D, 7 D, 8 D, 9 D

## CSD25402Q3A
designator Q?
pins: 1 D, 2 D, 3 D, 4 G, 5 S, 6 S, 7 S, 8 S, 9 S

## CSD87313DMS
designator Q?
pins: 1 G1, 2 D, 3 D, 4 G2, 5 S2, 6 S2, 7 S1, 8 S1

## CSTCE
designator X?
pins: 1, 2, 3

## CT
designator C?  SCH_Footprint: 0603  (hidden comment: CT)
Capacitor
pins: 1, 2
2 alternate drawings of the same symbol
text: +

## CY8C4247LQI-BL483
designator U?
pins: 1 VDDD (power) "1.71-V to 5.5-V digital supply", 2 XTAL32O/P6.0 (in) "32.768-kHz crystal", 3 XTAL32I/P6.1 (in) "32.768-kHz crystal or external clock input", 4 XRES (in) "Reset, active LOW", 5 P4.0 (io) "Port 4 Pin 0, analog/digital/lcd/csd", 6 P4.1 (io) "Port 4 Pin 1, analog/digital/lcd/csd", 7 P5.0 (io) "Port 5 Pin 0, analog/digital/lcd/csd", 8 P5.1 (io) "Port 5 Pin 1, analog/digital/lcd/csd", 9 VSSD (power) "Digital ground", 10 VDDR (power) "1.9-V to 5.5-V radio supply", 11 GANT1 (power) "Antenna shielding ground", 12 ANT (out) "Antenna pin", 13 GANT2 (power) "Antenna shielding ground", 14 VDDR (power) "1.9-V to 5.5-V radio supply", 15 VDDR (power) "1.9-V to 5.5-V radio supply", 16 XTAL24I (in) "24-MHz crystal or external clock input", 17 XTAL24O (out) "24-MHz crystal", 18 VDDR (power) "1.9-V to 5.5-V radio supply", 19 P0.0 (io) "Port 0 Pin 0, analog/digital/lcd/csd", 20 P0.1 (io) "Port 0 Pin 1, analog/digital/lcd/csd", 21 P0.2 (io) "Port 0 Pin 2, analog/digital/lcd/csd", 22 P0.3 (io) "Port 0 Pin 3, analog/digital/lcd/csd", 23 VDDD (power) "1.71-V to 5.5-V digital supply", 24 P0.4 (io) "Port 0 Pin 4, analog/digital/lcd/csd", 25 P0.5 (io) "Port 0 Pin 5, analog/digital/lcd/csd", 26 P0.6 (io) "Port 0 Pin 6, analog/digital/lcd/csd", 27 P0.7 (io) "Port 0 Pin 7, analog/digital/lcd/csd", 28 P1.0 (io) "Port 1 Pin 0, analog/digital/lcd/csd", 29 P1.1 (io) "Port 1 Pin 2, analog/digital/lcd/csd", 30 P1.2 (io) "Port 1 Pin 2, analog/digital/lcd/csd", 31 P1.3 (io) "Port 1 Pin 3, analog/digital/lcd/csd", 32 P1.4 (io) "Port 1 Pin 4, analog/digital/lcd/csd", 33 P1.5 (io) "Port 1 Pin 5, analog/digital/lcd/csd", 34 P1.6 (io) "Port 1 Pin 6, analog/digital/lcd/csd", 35 P1.7 (io) "Port 1 Pin 7, analog/digital/lcd/csd", 36 VDDA (power) "1.71-V to 5.5-V analog supply", 37 P2.0 (io) "Port 2 Pin 0, analog/digital/lcd/csd", 38 P2.1 (io) "Port 2 Pin 1, analog/digital/lcd/csd", 39 P2.2 (io) "Port 2 Pin 2, analog/digital/lcd/csd", 40 P2.3 (io) "Port 2 Pin 3, analog/digital/lcd/csd", 41 P2.4 (io) "Port 2 Pin 4, analog/digital/lcd/csd", 42 P2.5 (io) "Port 2 Pin 5, analog/digital/lcd/csd", 43 P2.6 (io) "Port 2 Pin 6, analog/digital/lcd/csd", 44 P2.7 (io) "Port 2 Pin 7, analog/digital/lcd/csd", 45 VREF (power) "1.024-V reference", 46 VDDA (power) "1.71-V to 5.5-V analog supply", 47 P3.0 (io) "Port 3 Pin 0, analog/digital/lcd/csd", 48 P3.1 (io) "Port 3 Pin 1, analog/digital/lcd/csd", 49 P3.2 (io) "Port 3 Pin 2, analog/digital/lcd/csd", 50 P3.3 (io) "Port 3 Pin 3, analog/digital/lcd/csd", 51 P3.4 (io) "Port 3 Pin 4, analog/digital/lcd/csd", 52 P3.5 (io) "Port 3 Pin 5, analog/digital/lcd/csd", 53 P3.6 (io) "Port 3 Pin 6, analog/digital/lcd/csd", 54 P3.7 (io) "Port 3 Pin 7, analog/digital/lcd/csd", 55 VSSA (power) "Analog ground", 56 VCCD (power) "Regulated 1.8-V supply; connect to 1-µF capacitor", EP1 EPAD (power) "Port 1 Pin 2, analog/digital/lcd/csd"

## D
designator D?  (value not drawn)
pins: 1 C, 2 A
1 alternate drawing of the same symbol

## DB
designator DB?  (value not drawn)
pins: 1 -, 2 +, 3 Sin, 4 Sin

## DDR3_96
designator U?  SCH_Footprint: 96FBGA  (hidden comment: DDR3_96)
part A pins: A2 DQ13 (io), A3 DQ15 (io), A7 DQ12 (io), B7 ~{DQSU} (io), B8 DQ14 (io), C2 DQ11 (io), C3 DQ9 (io), C7 DQSU (io), C8 DQ10 (io), D3 DMU (in), D7 DQ8 (io), E3 DQ0 (io), E7 DML (in), F2 DQ2 (io), F3 DQSL (io), F7 DQ1 (io), F8 DQ3 (io), G2 DQ6 (io), G3 ~{DQSL} (io), H3 DQ4 (io), H7 DQ7 (io), H8 DQ5 (io), J1 NC (in), J3 ~{RAS} (in), J7 CK (in), J9 NC (in), K1 ODT (in), K3 ~{CAS} (in), K7 ~{CK} (in), K9 CKE (in), L1 NC (in), L2 ~{CS} (in), L3 ~{WE} (in), L7 A10/AP (in), L8 ZQ, L9 NC (in), M2 BA0 (in), M3 BA2 (in), M7 NC/A15 (in), N2 A3 (in), N3 A0 (in), N7 A12/~{BC} (in), N8 BA1 (in), P2 A5 (in), P3 A2 (in), P7 A1 (in), P8 A4 (in), R2 A7 (in), R3 A9 (in), R7 A11 (in), R8 A6 (in), T2 ~{RESET} (in), T3 A13 (in), T7 A14 (in), T8 A8 (in)
part B pins: A1 VDDQ (in), A8 VDDQ (in), A9 VSS (in), B1 VSSQ (in), B2 VSS (in), B2 VDD (in), B9 VSSQ (in), C1 VDDQ (in), C9 VDDQ (in), D1 VSSQ (in), D2 VDDQ (in), D8 VSSQ (in), D9 VDD (in), E1 VSS (in), E2 VSSQ (in), E8 VSSQ (in), E9 VDDQ (in), F1 VDDQ (in), F9 VSSQ (in), G1 VSSQ (in), G7 VDD (in), G8 VSS (in), G9 VSSQ (in), H1 VREFDQ (in), H2 VDDQ (in), H9 VDDQ (in), J2 VSS (in), J8 VSS (in), K2 VDD (in), K8 VDD (in), M1 VSS (in), M8 VREFCA (in), M9 VSS (in), N1 VDD (in), N9 VDD (in), P1 VSS (in), P9 VSS (in), R1 VDD (in), R9 VDD (in), T1 VSS (in), T8 VSS (in)

## DLW5BSM801TQ2L
designator L?
RF transformer; Manufacturer Part Number: DLW5BSM801TQ2L
pins: 1, 2, 3, 4
2 alternate drawings of the same symbol

## DLW21HN
designator L?  Manufacturer Part Number: DLW21HN900SQ2L  (hidden comment: DLW21HN)
RF transformer
pins: 1, 2, 3, 4
2 alternate drawings of the same symbol

## DMG7401SFG-7
designator Q?
pins: 1 S, 2 S, 3 S, 4 G, 5 D, 6 D, 7 D, 8 D, 9 D

## DMN3404L-7
designator Q?  (value not drawn)
pins: 1 G, 2 S, 3 D

## DRV5053VAQLPG
designator U?
pins: 1 VCC, 2 GND, 3 OUT

## DRV5055A1QDBZT
designator U?  (value not drawn)
pins: 1 VCC, 2 OUT, 3 GND

## DRV8412DDW
designator U?  (value not drawn)
pins: 1 GVDD_C (power) "Gate-drive voltage supply", 2 VDD (in) "Power supply for digital voltage regulator requires capacitor to ground for", 3 NC (in) "No connection pin. Ground connection is recommended", 4 NC (in) "No connection pin. Ground connection is recommended", 5 PWM_D (in) "Input signal for half-bridge D", 6 nRESET_CD (in) "Reset signal for half-bridge A and half-bridge B, active-low", 7 PWM_C (in) "Input signal for half-bridge C", 8 M1 (in) "Mode selection pin", 9 M2 (in) "Mode selection pin", 10 M3 (in) "Reserved mode selection pin, AGND connection is recommended", 11 VREG (power) "Digital regulator supply filter pin requires 0.1-μF capacitor to AGND", 12 AGND (power) "Analog ground", 13 GND (power) "Ground", 14 OC_ADJ (out) "Analog overcurrent programming pin, requires resistor to AGND", 15 PWM_B (in) "Input signal for half-bridge B", 16 nRESET_AB (in) "Reset signal for half-bridge C and half-bridge D, active-low", 17 PWM_A (in) "Input signal for half-bridge A", 18 nFAULT (oc) "Fault signal, open-drain, active-low", 19 NC (in) "No connection pin. Ground connection is recommended", 20 NC (in) "No connection pin. Ground connection is recommended", 21 nOTW (oc) "Overtemperature warning signal, open-drain, active-low", 22 GVDD_B (power) "Gate-drive voltage supply", 23 GVDD_A (power) "Gate-drive voltage supply", 24 BST_A (power) "High side bootstrap supply (BST), external capacitor to OUT_A required", 25 NC (in) "No connection pin. Ground connection is recommended", 26 PVDD_A (power) "Power supply input for half-bridge A requires close decoupling capacitor to ground", 27 PVDD_A (power) "Power supply input for half-bridge A requires close decoupling capacitor to ground", 28 OUT_A (out) "Output, half-bridge A", 29 GND_A (power) "Power ground for half-bridge A", 30 GND_B (power) "Power ground for half-bridge B", 31 OUT_B (out) "Output, half-bridge B", 32 PVDD_B (power) "Power supply input for half-bridge B requires close decoupling capacitor to gound", 33 BST_B (power) "High side bootstrap supply (BST), external capacitor to OUT_B required", 34 BST_C (power) "High side bootstrap supply (BST), external capacitor to OUT_C required", 35 PVDD_C (power) "Power supply input for half-bridge C requires close decoupling capacitor to ground", 36 OUT_C (out) "Output, half-bridge C", 37 GND_C (power) "Power ground for half-bridge C", 38 GND_D (power) "Power ground for half-bridge D", 39 OUT_D (out) "Output, half-bridge D", 40 PVDD_D (power) "Power supply input for half-bridge D requires close decoupling capacitor to ground", 41 PVDD_D (power) "Power supply input for half-bridge D requires close decoupling capacitor to ground", 42 NC (in) "No connection pin. Ground connection is recommended", 43 BST_D (power) "High side bootstrap supply (BST), external capacitor to OUT_D required", 44 GVDD_D (power) "Gate-drive voltage supply", 45 GND (power) "This pad should"

## DRV8814PWPR
designator U?
pins: 1 CP1 (io) "Charge pump flying capacitor", 2 CP2 (io) "Charge pump flying capacitor", 3 VCP (io) "High-side gate drive voltage", 4 VMA (power) "Bridge A power supply", 5 AOUT1 (in) "Bridge A output 1", 6 ISENA (io) "Bridge A ground / Isense", 7 AOUT2 (out) "Bridge A output 2", 8 BOUT2 (out) "Bridge B output 2", 9 ISENB (in) "Bridge B ground / Isense", 10 BOUT1 (in) "Bridge B output 1", 11 VMB (in) "Bridge B power supply", 12 AVREF (in) "Bridge A current set reference input", 13 BVREF (in) "Bridge B current set reference input", 14 GND (power) "Device ground", 15 V3P3OUT (out) "3.3-V regulator output", 16 nRESET (in) "Reset input", 17 nSLEEP (in) "Sleep mode input", 18 nFAULT (oc) "Fault", 19 DECAY (in) "Decay (brake) mode", 20 APHASE (in) "Bridge A phase (direction)", 21 AENBL (in) "Bridge A enable", 22 BENBL (in) "Bridge B enable", 23 BPHASE (in) "Bridge B phase (direction)", 24 AI0 (in) "Bridge A current set", 25 AI1 (in) "Bridge A current set", 26 BI0 (in) "Bridge B current set", 27 BI1 (in) "Bridge B current set", 28 GND (power) "Device ground", EP1 GND (power) "Device ground"

## DRV8823DCA
designator U?  SCH_Footprint: HTTSOP-48
part A pins: 1 VM (in), 2 VM (in), 6 NC, 7 CP1, 8 CP2, 9 VCP, 10 PGND, 11 PGND, 12 PGND, 13 PGND, 14 PGND, 15 PGND, 16 V3P3 (out), 23 VM (in), 24 VM (in), 34 PGND, 35 PGND, 36 PGND, 37 PGND, 38 PGND, 39 PGND, 40 NC, 41 NC, 44 NC, EP1 PGND
part B pins: 3 AOUT2, 4 AISEN, 5 AOUT2, 17 ABVREF (in), 18 CDVREF (in), 19 TEST (in) "DNC", 20 DOUT2, 21 DISEN, 22 DOUT1, 25 COUT2, 26 CISEN, 27 COUT1, 28 TEST (in) "DNC", 29 TEST (in) "DNC", 30 SSTB (in), 31 SDATA (in), 32 TEST (in) "DNC", 33 SCLK (in), 42 ~{SLEEP} (in), 43 ~{RESET} (in), 45 SCS (in), 46 BOUT2, 47 BISEN, 48 BOUT1

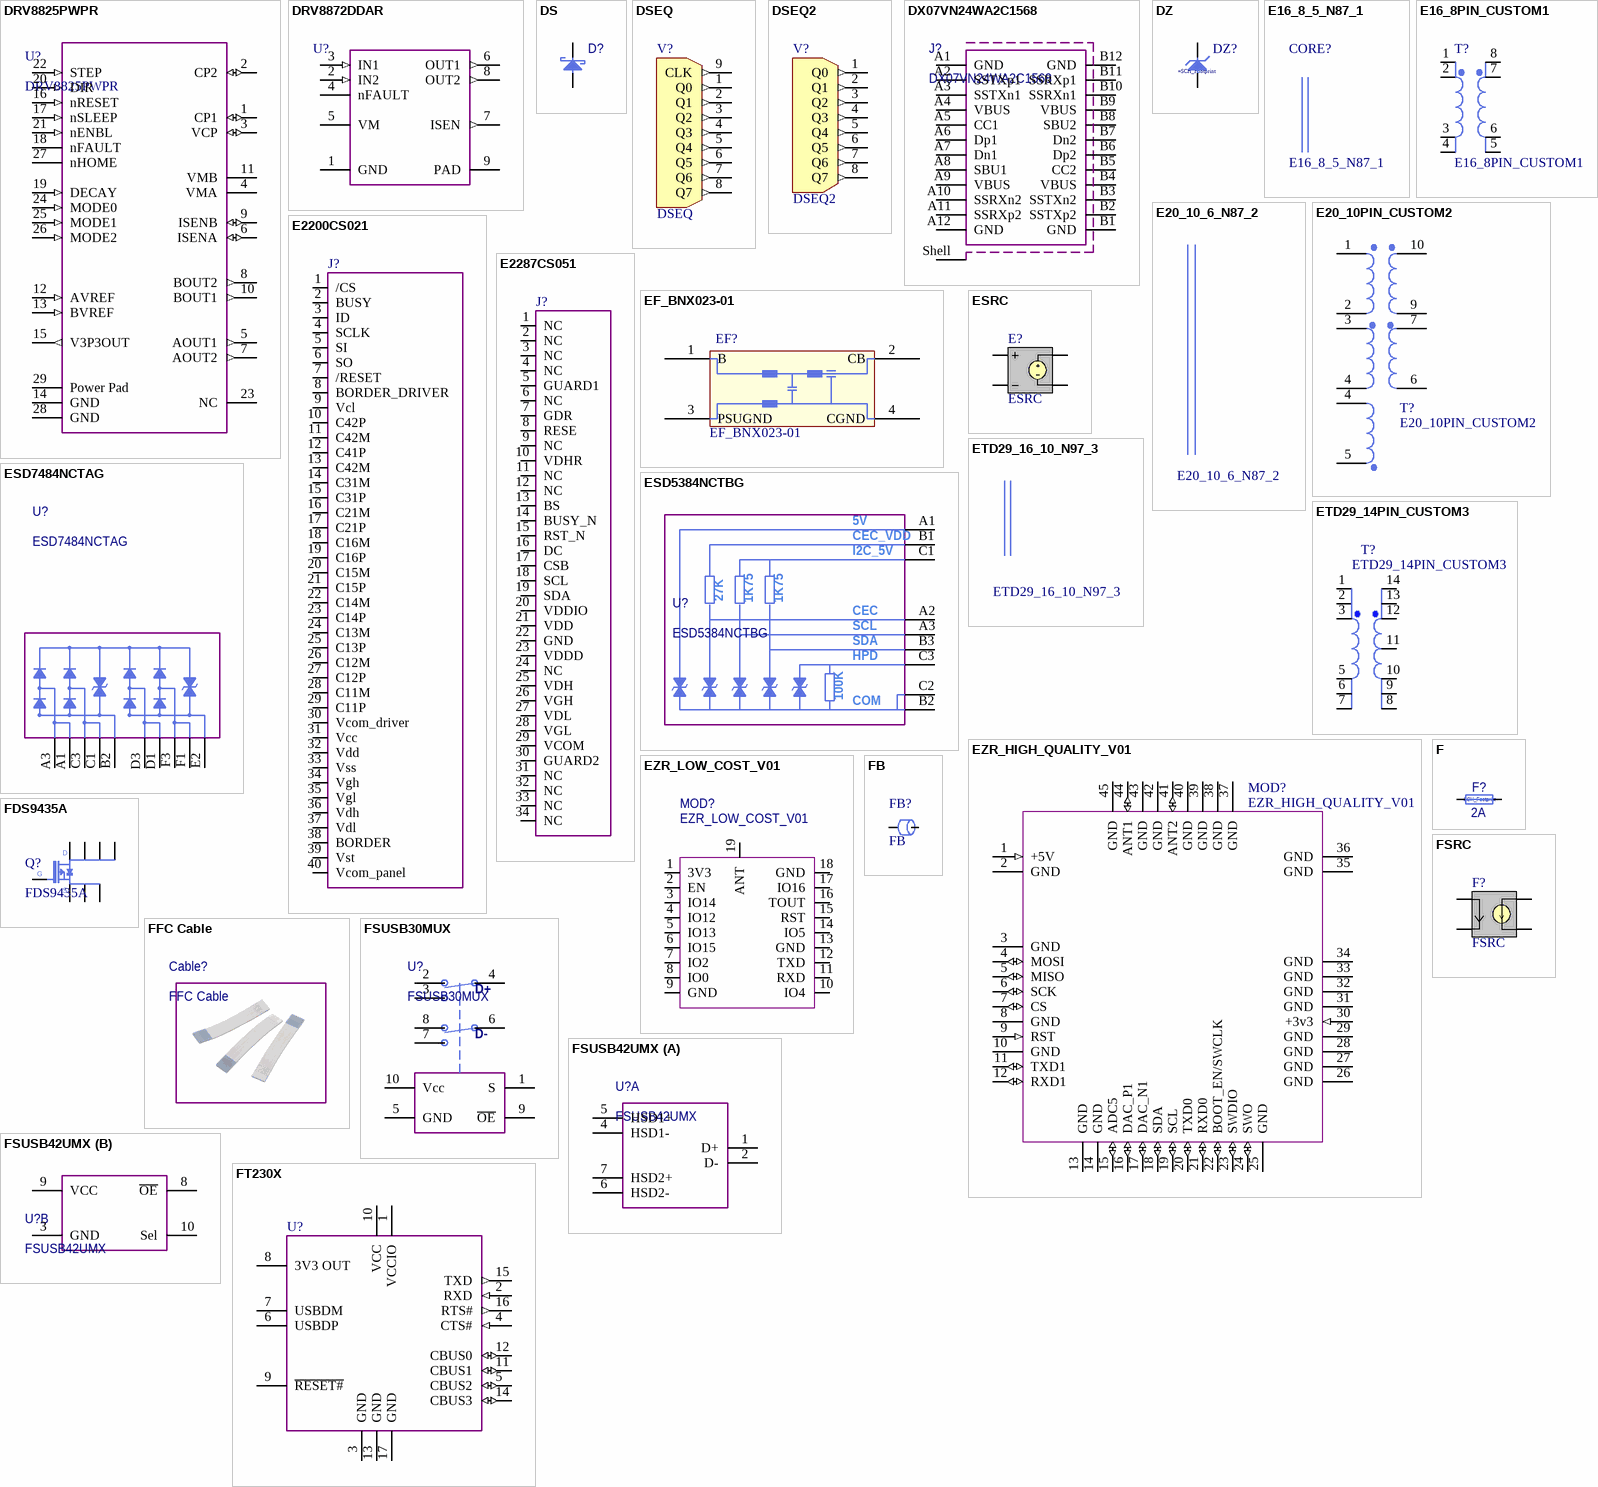
[diagram p4: symbols DRV8825PWPR to FT230X]

## DRV8825PWPR
designator U?
pins: 1 CP1 (io), 2 CP2 (io), 3 VCP (io), 4 VMA (power), 5 AOUT1 (out), 6 ISENA (io), 7 AOUT2 (out), 8 BOUT2 (out), 9 ISENB (io), 10 BOUT1 (out), 11 VMB (power), 12 AVREF (in), 13 BVREF (in), 14 GND (power), 15 V3P3OUT (out), 16 nRESET (in), 17 nSLEEP (in), 18 nFAULT (oc), 19 DECAY (in), 20 DIR (in), 21 nENBL (in), 22 STEP (in), 23 NC (hiz), 24 MODE0 (in), 25 MODE1 (in), 26 MODE2 (in), 27 nHOME (oc), 28 GND (power), 29 Power Pad

## DRV8872DDAR
designator U?  (value not drawn)
pins: 1 GND (power) "Connect to board ground", 2 IN2 (in) "Controls the H-bridge output. Has internal pulldowns", 3 IN1 (in) "Controls the H-bridge output. Has internal pulldowns", 4 nFAULT (oc) "Fault status (open-drain)", 5 VM (power) "6.5-V to 45-V power", 6 OUT1 (out) "H-bridge outputs", 7 ISEN (out) "High-current ground path", 8 OUT2 (out) "H-bridge outputs", 9 PAD (power) "Connet to ground"

## DS
designator D?  (value not drawn)
pins: 1 C, 2 A
1 alternate drawing of the same symbol

## DSEQ
designator V?
Data Sequencer with Clock Output; Note: PCB Footprint - Not required; Published: 17-Jul-2002; LatestRevisionDate: 21-May-2003; LatestRevisionNote: SIM file, XsourceFile.txt, added.; PackageReference: Not Applicable; Publisher: Altium Limited
simulation model xsourcesub (SUBCKT)
pins: 1 Q0 (out), 2 Q1 (out), 3 Q2 (out), 4 Q3 (out), 5 Q4 (out), 6 Q5 (out), 7 Q6 (out), 8 Q7 (out), 9 CLK (out)

## DSEQ2
designator V?
Data Sequencer; Note: PCB Footprint - Not required; Published: 17-Jul-2002; LatestRevisionDate: 21-May-2003; LatestRevisionNote: SIM file, XSOURCEFILE2.TXT, added.; PackageReference: Not Applicable; Publisher: Altium Limited
simulation model xsourcesub2 (SUBCKT)
pins: 1 Q0 (out), 2 Q1 (out), 3 Q2 (out), 4 Q3 (out), 5 Q4 (out), 6 Q5 (out), 7 Q6 (out), 8 Q7 (out)

## DX07VN24WA2C1568
designator J?
pins: A1 GND, A2 SSTXp1, A3 SSTXn1, A4 VBUS, A5 CC1, A6 Dp1, A7 Dn1, A8 SBU1, A9 VBUS, A10 SSRXn2, A11 SSRXp2, A12 GND, B1 GND, B2 SSTXp2, B3 SSTXn2, B4 VBUS, B5 CC2, B6 Dp2, B7 Dn2, B8 SBU2, B9 VBUS, B10 SSRXn1, B11 SSRXp1, B12 GND, Shell Shield

## DZ
designator DZ?  (value not drawn)
Zener
pins: 1 C, 2 A
1 alternate drawing of the same symbol

## E16_8_5_N87_1
designator CORE?

## E16_8PIN_CUSTOM1
designator T?
pins: 1, 2, 3, 4, 5, 6, 7, 8

## E20_10_6_N87_2
designator CORE?

## E20_10PIN_CUSTOM2
designator T?
pins: 1, 2, 3, 4, 4, 5, 6, 7, 9, 10

## E2200CS021
designator J?  (value not drawn)
pins: 1 /CS, 2 BUSY, 3 ID, 4 SCLK, 5 SI, 6 SO, 7 /RESET, 8 BORDER_DRIVER, 9 Vcl, 10 C42P, 11 C42M, 12 C41P, 13 C42M, 14 C31M, 15 C31P, 16 C21M, 17 C21P, 18 C16M, 19 C16P, 20 C15M, 21 C15P, 22 C14M, 23 C14P, 24 C13M, 25 C13P, 26 C12M, 27 C12P, 28 C11M, 29 C11P, 30 Vcom_driver, 31 Vcc, 32 Vdd, 33 Vss, 34 Vgh, 35 Vgl, 36 Vdh, 37 Vdl, 38 BORDER, 39 Vst, 40 Vcom_panel
2 alternate drawings of the same symbol

## E2287CS051
designator J?  (value not drawn)
J_E2287CS051_FPC_connector
pins: 1 NC, 2 NC, 3 NC, 4 NC, 5 GUARD1, 6 NC, 7 GDR, 8 RESE, 9 NC, 10 VDHR, 11 NC, 12 NC, 13 BS, 14 BUSY_N, 15 RST_N, 16 DC, 17 CSB, 18 SCL, 19 SDA, 20 VDDIO, 21 VDD, 22 GND, 23 VDDD, 24 NC, 25 VDH, 26 VGH, 27 VDL, 28 VGL, 29 VCOM, 30 GUARD2, 31 NC, 32 NC, 33 NC, 34 NC
2 alternate drawings of the same symbol

## EF_BNX023-01
designator EF?
SMD noise suppresion filter on DC power lines
pins: 1 B, 2 CB, 3 PSUGND, 4 CGND

## ESD5384NCTBG
designator U?
pins: A1 5V, A2 CEC, A3 SCL, B1 CEC_VDD, B2 COM, B3 SDA, C1 I2C_5V, C2 COM, C3 HPD
text: 27K; 1K75; 100K

## ESD7484NCTAG
designator U?
pins: A1 5V, A3 SCL, B2 COM, C1 I2C_5V, C3 HPD, D1 SCL, D3 SCL, E2 SCL, F1 SCL, F3 SCL

## ESRC
designator E?
Voltage Controlled Voltage Source; Note: PCB Footprint - Not required; Sim Note: Enter gain into gain field; Published: 8-Jun-2000; LatestRevisionDate: 17-Jul-2002; LatestRevisionNote: Re-released for DXP Platform.; PackageReference: Not Applicable; Publisher: Altium Limited
simulation model VCVS
pins: 1 NC+, 2 NC-, 3 N+, 4 N-

## ETD29_14PIN_CUSTOM3
designator T?
pins: 1, 2, 3, 5, 6, 7, 8, 9, 10, 11, 12, 13, 14

## ETD29_16_10_N97_3
designator CORE?

## EZR_HIGH_QUALITY_V01
designator MOD?
pins: 1 +5V (in), 2 GND, 3 GND, 4 MOSI (io) "PB3;PCNT1_S0IN #1;US2_TX #1", 5 MISO (io) "B4;PCNT1_S1IN #1", 6 SCK (io) "PB5;US2_CLK #1", 7 CS (io) "PB6;US2_CS #1", 8 GND, 9 RST (in), 10 GND, 11 TXD1 (io) "PD0;ADC0_CH0;OPAMP_OUT2 #1;PCNT2_S0IN #0;US1_TX #1", 12 RXD1 (io) "PD1;ADC0_CH1;DAC0_OUT1ALT #4;OPAMP_OUT1ALT;TIM0_CC0 #3;PCNT2_S1IN #0;US1_RX #1;DBG_SWO #2", 13 GND, 14 GND, 15 ADC5 (io) ";PD5;ADC0_CH5;OPAMP_OUT2 #0;LEU0_RX #0;ETM_TD3 #0/2", 16 DAC_P1 (io) "PD6;ADC0_CH6 DAC0_P1;OPAMP_P1;TIM1_CC0#4;LE-TIM0_OUT0#0;PCNT0_S0IN#3;US1_RX#2;I2C0_SDA#1;ACMP0_O#2;ETM_TD0#0;BOOT_RX", 17 DAC_N1 (io) "PD7;;ADC0_CH7;DAC0_N1;OPAMP_N1;TIM1_CC1#4;LE-TIM0_OUT1#0;PCNT0_S1IN#3;US1_TX#2;I2C0_SCL#1;CMU_CLK0#2;ACMP1_O#2;ETM_TCLK#0;BOOT_TX", 18 SDA (io) "PC6;ACMP0_CH6;LEU1_TX #0;I2C0_SDA#2;LES_CH6 #0;ETM_TCLK #2", 19 SCL (io) "PC7;ACMP0_CH7;LEU1_RX #0;I2C0_SCL #2;LES_CH7 #0 ETM_TD0 #2", 20 TXD0 (io) "PE0;TIM3_CC0#1;PCNT0_S0IN#1;U0_TX#1;I2C1_SDA#2", 21 RXD0 (io) "PE1;TIM3_CC1#1;PCNT0_S1IN#1;U0_RX#1;I2C1_SCL#2", 22 BOOT_EN/SWCLK (io) "PF0;TIM0_CC0#5;LE-TIM0_OUT0#2;US1_CLK#2;LEU0_TX#3;I2C0_SDA#5;DBG_SWCLK#0/1/2/3", 23 SWDIO (io) "PF1;TIM0_CC1#5;LE-TIM0_OUT1#2;US1_CS#2;LEU0_RX#3;I2C0_SCL#5;DBG_SWDIO#0/1/2/3;GPIO_EM4WU3", 24 SWO (io) "PF2;TIM0_CC2#5;LEU0_TX#4;ACMP1_O#0;DBG_SWO#0;GPIO_EM4WU4", 25 GND, 26 GND, 27 GND, 28 GND, 29 GND, 30 +3v3 (in), 31 GND, 32 GND, 33 GND, 34 GND, 35 GND, 36 GND, 37 GND, 38 GND, 39 GND, 40 GND, 41 ANT2 (io), 42 GND, 43 GND, 44 ANT1 (io), 45 GND

## EZR_LOW_COST_V01
designator MOD?
pins: 1 3V3, 2 EN, 3 IO14, 4 IO12, 5 IO13, 6 IO15, 7 IO2, 8 IO0, 9 GND, 10 IO4, 11 RXD, 12 TXD, 13 GND, 14 IO5, 15 RST, 16 TOUT, 17 IO16, 18 GND, 19 ANT

## F
designator F?  Hold Current: 2A  (hidden comment: F)
Fuse
pins: 1, 2
1 alternate drawing of the same symbol

## FB
designator FB?
Ferrite Bead
pins: 1, 2
1 alternate drawing of the same symbol

## FDS9435A
designator Q?
pins: 1 S, 2 S, 3 S, 4 G, 5 D, 6 D, 7 D, 8 D

## FFC Cable
designator Cable?

## FSRC
designator F?
Current Controlled Current Source; Note: PCB Footprint - Not required; Sim Note: Enter gain into GAIN field; Published: 8-Jun-2000; LatestRevisionDate: 17-Jul-2002; LatestRevisionNote: Re-released for DXP Platform.; PackageReference: Not Applicable; Publisher: Altium Limited
simulation model CCCS
pins: 1 NC+, 2 NC-, 3 N+, 4 N-

## FSUSB30MUX
designator U?
pins: 1 S, 2 HSD1+, 3 HSD2+, 4 D+, 5 GND, 6 D-, 7 HSD2-, 8 HSD1-, 9 ~{OE}, 10 Vcc

## FSUSB42UMX
designator U?
part A pins: 1 D+, 2 D-, 4 HSD1-, 5 HSD1+, 6 HSD2-, 7 HSD2+
part B pins: 3 GND, 8 ~{OE}, 9 VCC, 10 Sel

## FT230X
designator U?  (value not drawn)
pins: 1 VCCIO (power), 2 RXD (in), 3 GND (power), 4 CTS# (in), 5 CBUS2 (io), 6 USBDP, 7 USBDM, 8 3V3 OUT (power), 9 ~{RESET#}, 10 VCC (power), 11 CBUS1 (io), 12 CBUS0 (io), 13 GND (power), 14 CBUS3 (io), 15 TXD (out), 16 RTS# (out), 17 GND (power)

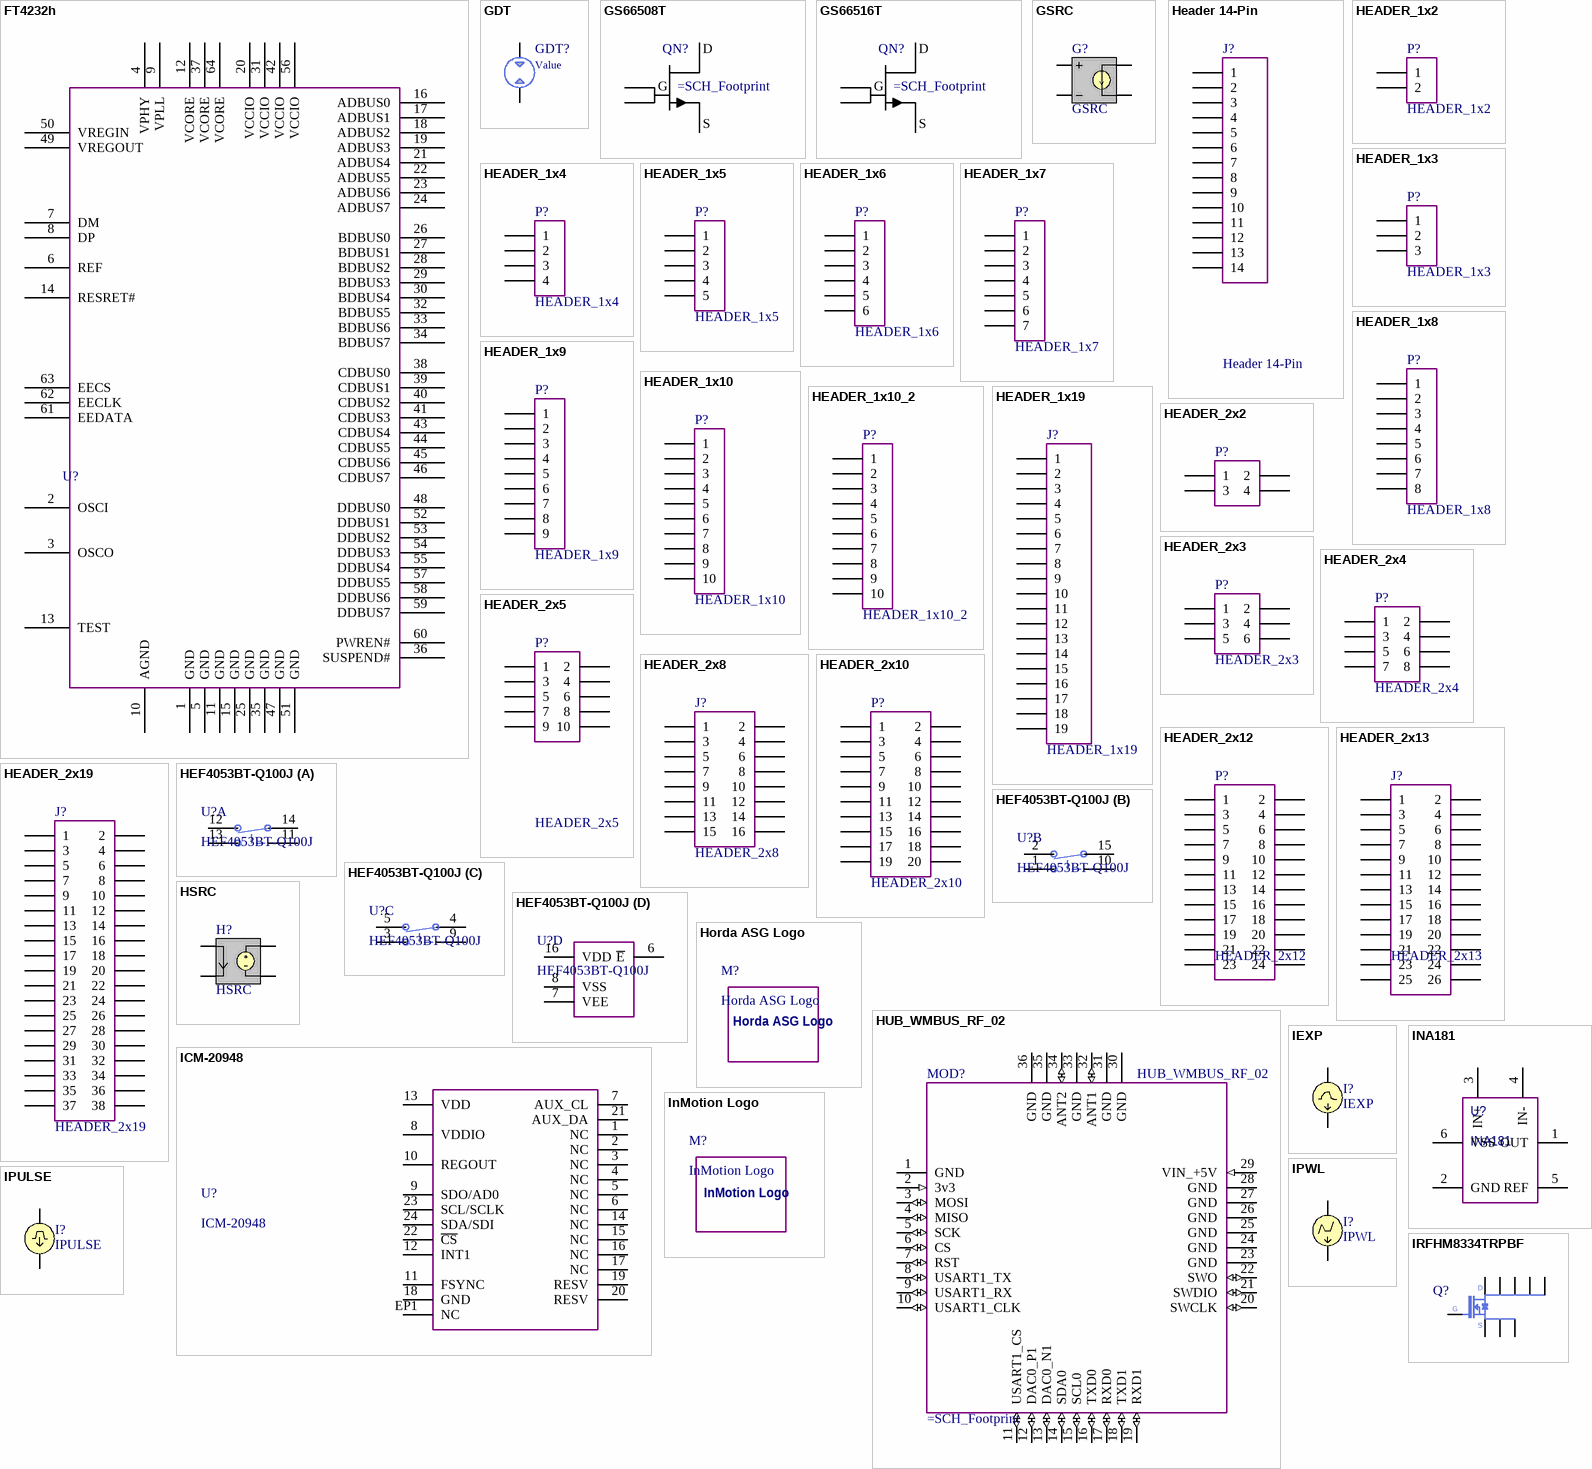
[diagram p5: symbols FT4232h to IRFHM8334TRPBF]

## FT4232h
designator U?  (value not drawn)
FTDI
pins: 1 GND, 2 OSCI, 3 OSCO, 4 VPHY, 5 GND, 6 REF, 7 DM, 8 DP, 9 VPLL, 10 AGND, 11 GND, 12 VCORE, 13 TEST, 14 RESRET#, 15 GND, 16 ADBUS0, 17 ADBUS1, 18 ADBUS2, 19 ADBUS3, 20 VCCIO, 21 ADBUS4, 22 ADBUS5, 23 ADBUS6, 24 ADBUS7, 25 GND, 26 BDBUS0, 27 BDBUS1, 28 BDBUS2, 29 BDBUS3, 30 BDBUS4, 31 VCCIO, 32 BDBUS5, 33 BDBUS6, 34 BDBUS7, 35 GND, 36 SUSPEND#, 37 VCORE, 38 CDBUS0, 39 CDBUS1, 40 CDBUS2, 41 CDBUS3, 42 VCCIO, 43 CDBUS4, 44 CDBUS5, 45 CDBUS6, 46 CDBUS7, 47 GND, 48 DDBUS0, 49 VREGOUT, 50 VREGIN, 51 GND, 52 DDBUS1, 53 DDBUS2, 54 DDBUS3, 55 DDBUS4, 56 VCCIO, 57 DDBUS5, 58 DDBUS6, 59 DDBUS7, 60 PWREN#, 61 EEDATA, 62 EECLK, 63 EECS, 64 VCORE

## GDT
designator GDT?  (value not drawn)
Value: Value
pins: 1, 2

## GS66508T
designator QN?  (value not drawn)
GAN TRANS E-MODE 650V 60A TOP SIDE COOL
pins: 1 D, 2 G1, 3 S, 4 G2
text: G

## GS66516T
designator QN?  (value not drawn)
GAN TRANS E-MODE 650V 60A TOP SIDE COOL
pins: 1 D, 2 G1, 3 S, 4 G2
text: G

## GSRC
designator G?
Voltage Controlled Current Source; Note: PCB Footprint - Not required; Sim Note: Enter gain into GAIN field; Published: 8-Jun-2000; LatestRevisionDate: 17-Jul-2002; LatestRevisionNote: Re-released for DXP Platform.; PackageReference: Not Applicable; Publisher: Altium Limited
simulation model VCCS
pins: 1 NC+, 2 NC-, 3 N+, 4 N-

## Header 14-Pin
designator J?
pins: 1, 2, 3, 4, 5, 6, 7, 8, 9, 10, 11, 12, 13, 14

## HEADER_1x2
designator P?
Header, 2-Pin
pins: 1, 2

## HEADER_1x3
designator P?
Header, 3-Pin
pins: 1, 2, 3

## HEADER_1x4
designator P?
Header, 4-Pin
pins: 1, 2, 3, 4

## HEADER_1x5
designator P?
Header, 5-Pin
pins: 1, 2, 3, 4, 5

## HEADER_1x6
designator P?
Header, 6-Pin
pins: 1, 2, 3, 4, 5, 6

## HEADER_1x7
designator P?
Header, 7-Pin
pins: 1, 2, 3, 4, 5, 6, 7

## HEADER_1x8
designator P?
Header, 8-Pin
pins: 1, 2, 3, 4, 5, 6, 7, 8

## HEADER_1x9
designator P?
Header, 9-Pin
pins: 1, 2, 3, 4, 5, 6, 7, 8, 9

## HEADER_1x10
designator P?
Header, 10-Pin
pins: 1, 2, 3, 4, 5, 6, 7, 8, 9, 10

## HEADER_1x10_2
designator P?
Header, 10-Pin
pins: 1, 2, 3, 4, 5, 6, 7, 8, 9, 10

## HEADER_1x19
designator J?
Header, 19-Pin
pins: 1, 2, 3, 4, 5, 6, 7, 8, 9, 10, 11, 12, 13, 14, 15, 16, 17, 18, 19

## HEADER_2x2
designator P?  (value not drawn)
pins: 1, 2, 3, 4

## HEADER_2x3
designator P?
Header, 3-Pin, Dual row
pins: 1, 2, 3, 4, 5, 6

## HEADER_2x4
designator P?
Header, 4-Pin, Dual row
pins: 1, 2, 3, 4, 5, 6, 7, 8

## HEADER_2x5
designator P?
Header, 10-Pin, Dual row
pins: 1, 2, 3, 4, 5, 6, 7, 8, 9, 10

## HEADER_2x8
designator J?
HEADER 2x8 16 circtuits
pins: 1, 2, 3, 4, 5, 6, 7, 8, 9, 10, 11, 12, 13, 14, 15, 16

## HEADER_2x10
designator P?
Header, 10-Pin, Dual row
pins: 1, 2, 3, 4, 5, 6, 7, 8, 9, 10, 11, 12, 13, 14, 15, 16, 17, 18, 19, 20

## HEADER_2x12
designator P?
pins: 1, 2, 3, 4, 5, 6, 7, 8, 9, 10, 11, 12, 13, 14, 15, 16, 17, 18, 19, 20, 21, 22, 23, 24

## HEADER_2x13
designator J?
Header, 26-Pin, Dual row
pins: 1, 2, 3, 4, 5, 6, 7, 8, 9, 10, 11, 12, 13, 14, 15, 16, 17, 18, 19, 20, 21, 22, 23, 24, 25, 26

## HEADER_2x19
designator J?
Header, 38-Pin, Dual row
pins: 1, 2, 3, 4, 5, 6, 7, 8, 9, 10, 11, 12, 13, 14, 15, 16, 17, 18, 19, 20, 21, 22, 23, 24, 25, 26, 27, 28, 29, 30, 31, 32, 33, 34, 35, 36, 37, 38

## HEF4053BT-Q100J
designator U?
part A pins: 11 S1, 12 1Y0, 13 1Y1, 14 1Z
part B pins: 1 2Y1, 2 2Y0, 10 S2, 15 2Z
part C pins: 3 3Y1, 4 3Z, 5 3Y0, 9 S3
part D pins: 6 ~{E}, 7 VEE, 8 VSS, 16 VDD

## Horda ASG Logo
designator M?  (no BOM)

## HSRC
designator H?
Current Controlled Voltage Source; Note: PCB Footprint - Not required; Sim Note: Enter gain into gain field; Published: 8-Jun-2000; LatestRevisionDate: 17-Jul-2002; LatestRevisionNote: Re-released for DXP Platform.; PackageReference: Not Applicable; Publisher: Altium Limited
simulation model CCVS
pins: 1 NC+, 2 NC-, 3 N+, 4 N-